# Altium schematic symbol library SparkFun-Retired.SCHLIB: 411 symbols (part 4 of 6)
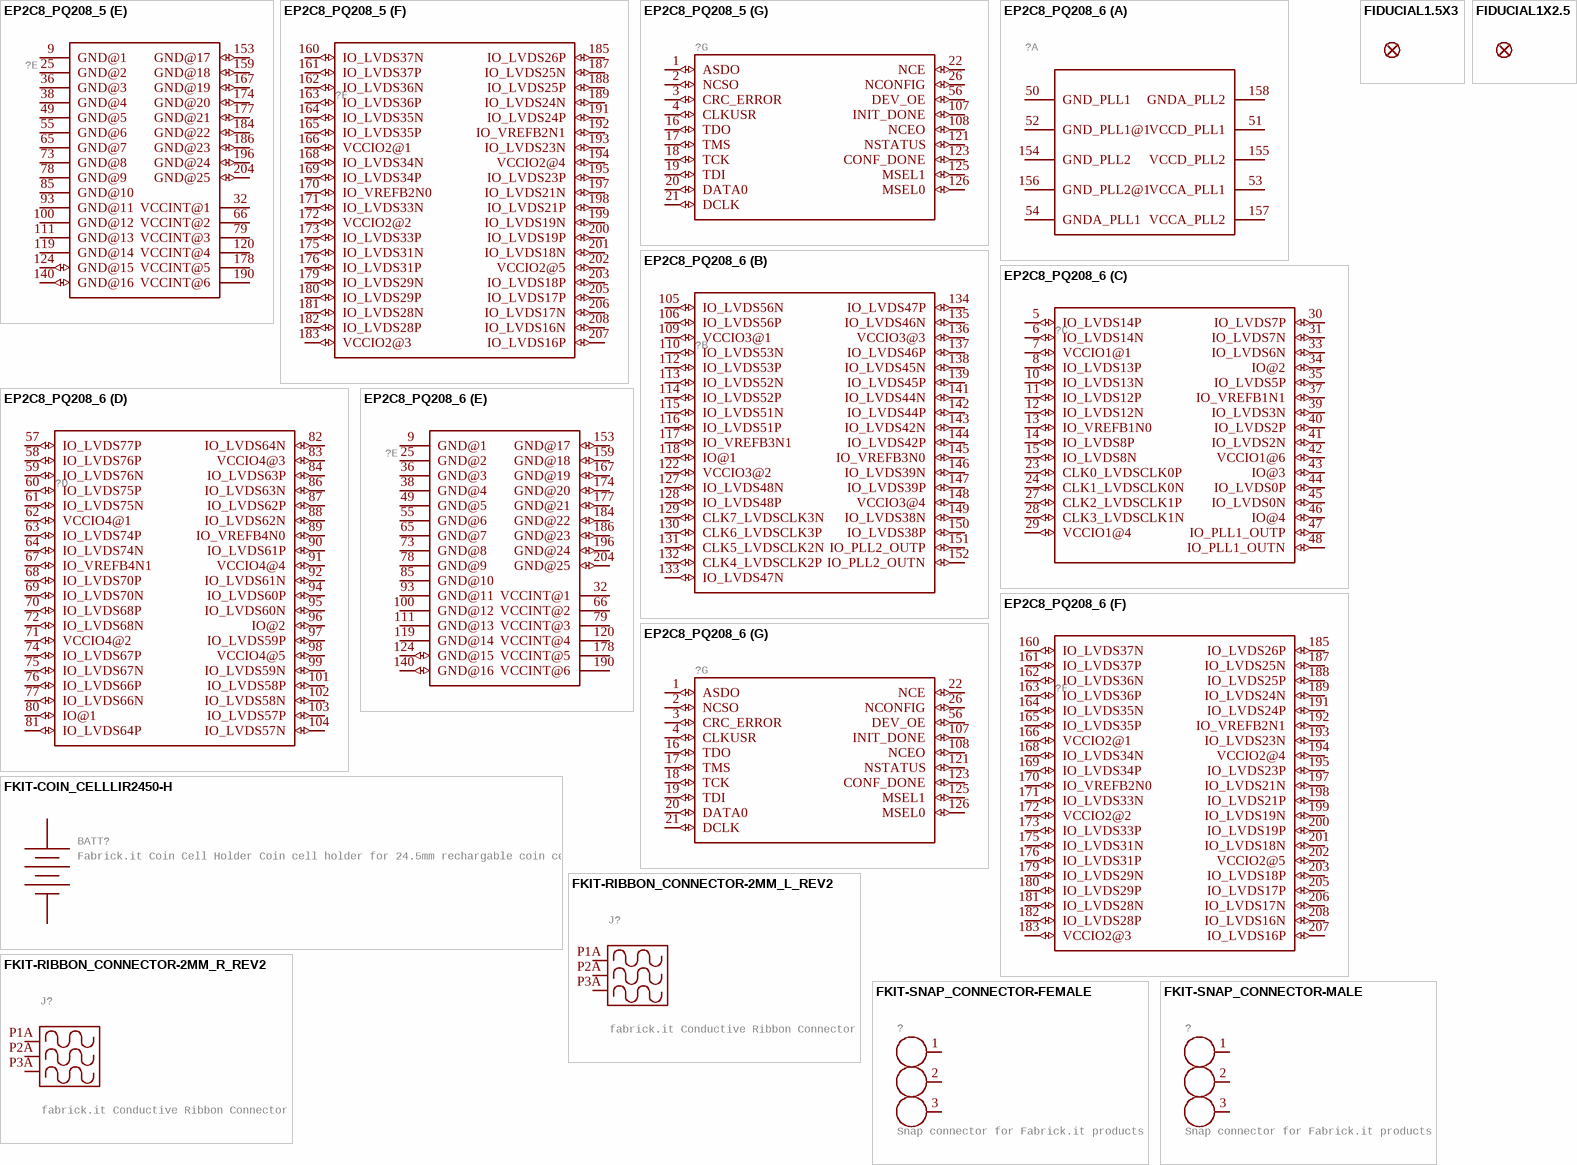
[diagram p35: symbols EP2C8_PQ208_5 to FKIT-SNAP_CONNECTOR-MALE]

## FKIT-COIN_CELLLIR2450-H
designator BATT?, comment Fabrick.it Coin Cell Holder Coin cell holder for 24.5mm rechargable coin cell
GateName_1: G$1; SymbolName_1: FKIT-BATTERY; DeviceName: LIR2450-H; DeviceSetName: FKIT-COIN_CELL; LibraryName: SparkFun-Retired; Package: FKIT-LIR2450-H
footprint FKIT-LIR2450-H
pins: NEG (io), POS (io)

## FKIT-LOGO-MEDIUM
designator LOGO?, comment Fabrick.it Logos  (value not drawn)
GateName_1: G$1; SymbolName_1: FKIT-LOGO; DeviceName: -MEDIUM; LibraryName: SparkFun-Retired; DeviceSetName: FKIT-LOGO; Package: FKIT-LOGO_MEDIUM
footprint FKIT-LOGO_MEDIUM

## FKIT-LOGO-SMALL
designator LOGO?, comment Fabrick.it Logos  (value not drawn)
GateName_1: G$1; SymbolName_1: FKIT-LOGO; DeviceName: -SMALL; LibraryName: SparkFun-Retired; DeviceSetName: FKIT-LOGO; Package: FKIT-LOGO_SMALL
footprint FKIT-LOGO_SMALL

## FKIT-LOGO-VERY_SMALL
designator LOGO?, comment Fabrick.it Logos  (value not drawn)
GateName_1: G$1; SymbolName_1: FKIT-LOGO; DeviceName: -VERY_SMALL; LibraryName: SparkFun-Retired; DeviceSetName: FKIT-LOGO; Package: FKIT-LOGO_VERY_SMALL
footprint FKIT-LOGO_VERY_SMALL

## FKIT-LOGO-VERY_SMALL_VECTOR
designator LOGO?, comment Fabrick.it Logos  (value not drawn)
GateName_1: G$1; SymbolName_1: FKIT-LOGO; DeviceName: -VERY_SMALL_VECTOR; LibraryName: SparkFun-Retired; DeviceSetName: FKIT-LOGO; Package: FKIT-LOGO_VERY_SMALL
footprint FKIT-LOGO_VERY_SMALL

## FKIT-LOGOTYPE-MEDIUM
designator LOGO?, comment Fabrick.it Logotype  (value not drawn)
GateName_1: G$1; SymbolName_1: FKIT-LOGOTYPE; DeviceName: -MEDIUM; LibraryName: SparkFun-Retired; DeviceSetName: FKIT-LOGOTYPE; Package: FKIT-LOGOTYPE_MEDIUM
footprint FKIT-LOGOTYPE_MEDIUM

## FKIT-LOGOTYPE-SMALL
designator LOGO?, comment Fabrick.it Logotype  (value not drawn)
GateName_1: G$1; SymbolName_1: FKIT-LOGOTYPE; DeviceName: -SMALL; LibraryName: SparkFun-Retired; DeviceSetName: FKIT-LOGOTYPE; Package: FKIT-LOGOTYPE_SMALL
footprint FKIT-LOGOTYPE_SMALL

## FKIT-LOGOTYPE-VERY_SMALL
designator LOGO?, comment Fabrick.it Logotype  (value not drawn)
GateName_1: G$1; SymbolName_1: FKIT-LOGOTYPE; DeviceName: -VERY_SMALL; LibraryName: SparkFun-Retired; DeviceSetName: FKIT-LOGOTYPE; Package: FKIT-LOGOTYPE_VERY_SMALL
footprint FKIT-LOGOTYPE_VERY_SMALL

## FKIT-RIBBON_CONNECTOR-2MM_L_REV2
designator J?, comment fabrick.it Conductive Ribbon Connector
GateName_1: G$1; SymbolName_1: FKIT-CONNECTOR_COND_03; DeviceName: -2MM_L_REV2; DeviceSetName: FKIT-RIBBON_CONNECTOR; LibraryName: SparkFun-Retired; Package: FKIT-RIBBON_CONNECTOR_03_2MM_L
footprint FKIT-RIBBON_CONNECTOR_03_2MM_L
pins: P1A P$1 (io), P2A P$2 (io), P3A P$3 (io)

## FKIT-RIBBON_CONNECTOR-2MM_R_REV2
designator J?, comment fabrick.it Conductive Ribbon Connector
GateName_1: G$1; SymbolName_1: FKIT-CONNECTOR_COND_03; DeviceName: -2MM_R_REV2; DeviceSetName: FKIT-RIBBON_CONNECTOR; LibraryName: SparkFun-Retired; Package: FKIT-RIBBON_CONNECTOR_03_2MM_R
footprint FKIT-RIBBON_CONNECTOR_03_2MM_R
pins: P1A P$1 (io), P2A P$2 (io), P3A P$3 (io)

## FKIT-SNAP_CONNECTOR-FEMALE
designator ?, comment Snap connector for Fabrick.it products
GateName_1: G$1; SymbolName_1: FKIT-SNAP_CONNECTOR; DeviceName: -FEMALE; LibraryName: SparkFun-Retired; DeviceSetName: FKIT-SNAP_CONNECTOR; Package: FKIT-SNAP_FEMALE
footprint FKIT-SNAP_FEMALE
pins: 1 (io), 2 (io), 3 (io)

## FKIT-SNAP_CONNECTOR-MALE
designator ?, comment Snap connector for Fabrick.it products
GateName_1: G$1; SymbolName_1: FKIT-SNAP_CONNECTOR; DeviceName: -MALE; LibraryName: SparkFun-Retired; DeviceSetName: FKIT-SNAP_CONNECTOR; Package: FKIT-SNAP_MALE
footprint FKIT-SNAP_MALE
pins: 1 (io), 2 (io), 3 (io)

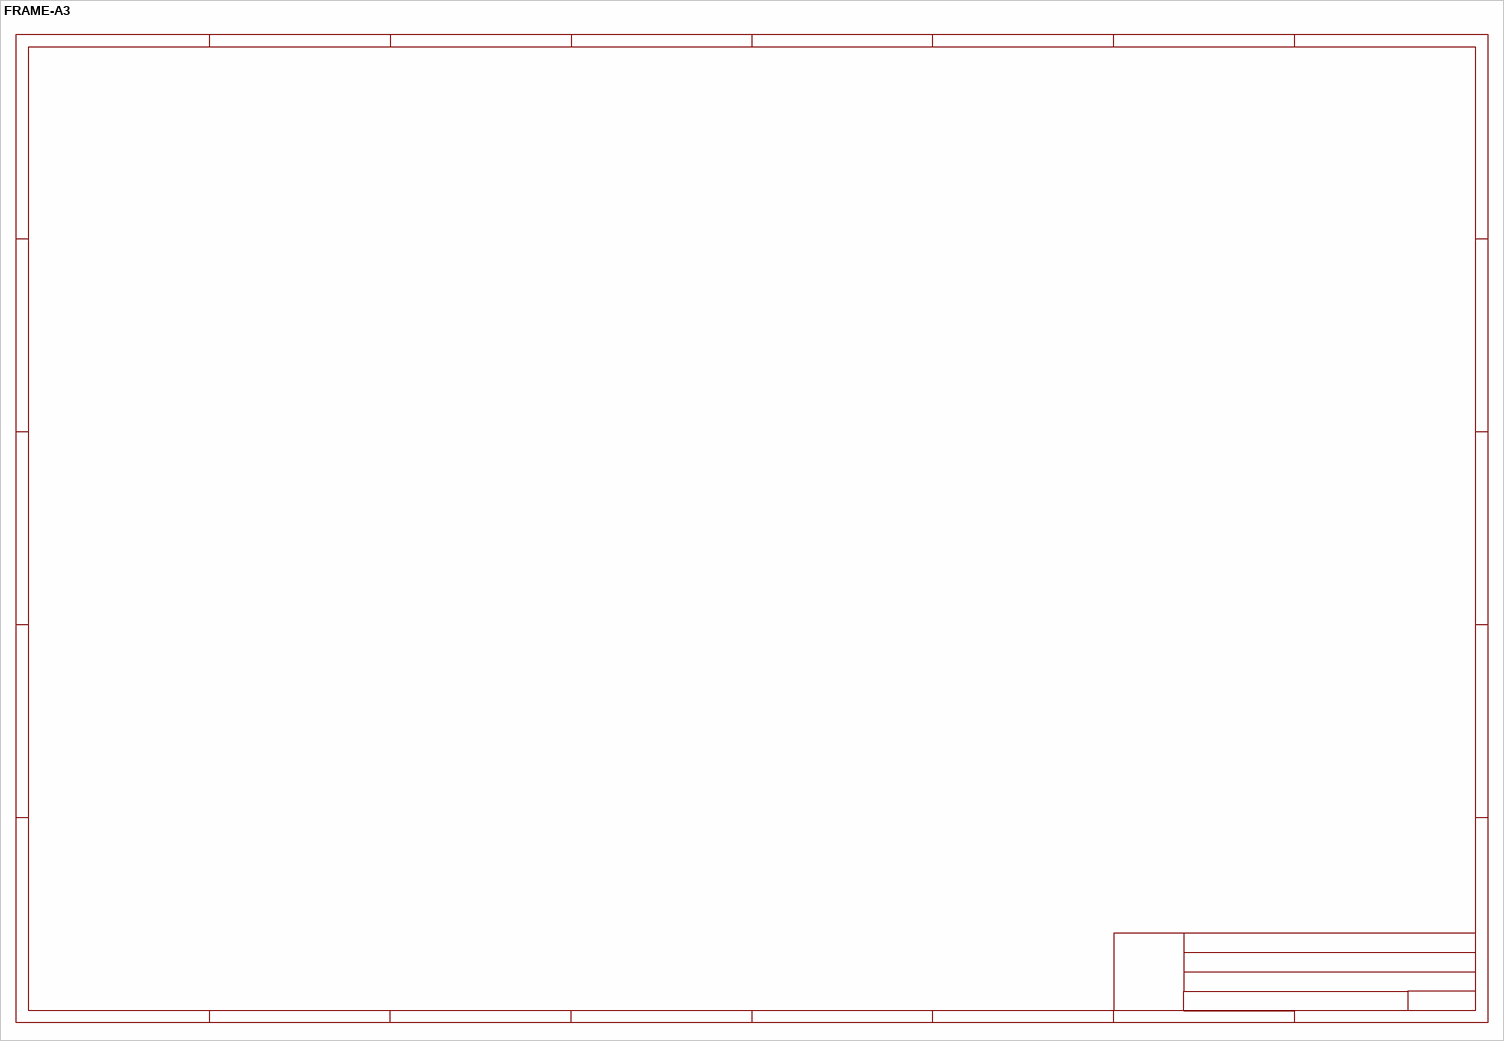
[diagram p15: symbol FRAME-A3]

## FRAME-A3
designator FRAME?, comment Schematic Frame   A3 Larger Frame-RETIRED Please use FRAME-LEDGER/FRAME-LETTER for schematics now.  (value not drawn)
GateName_1: G$1; SymbolName_1: A3L-LOC; DeviceSetName: FRAME-A3; LibraryName: SparkFun-Retired

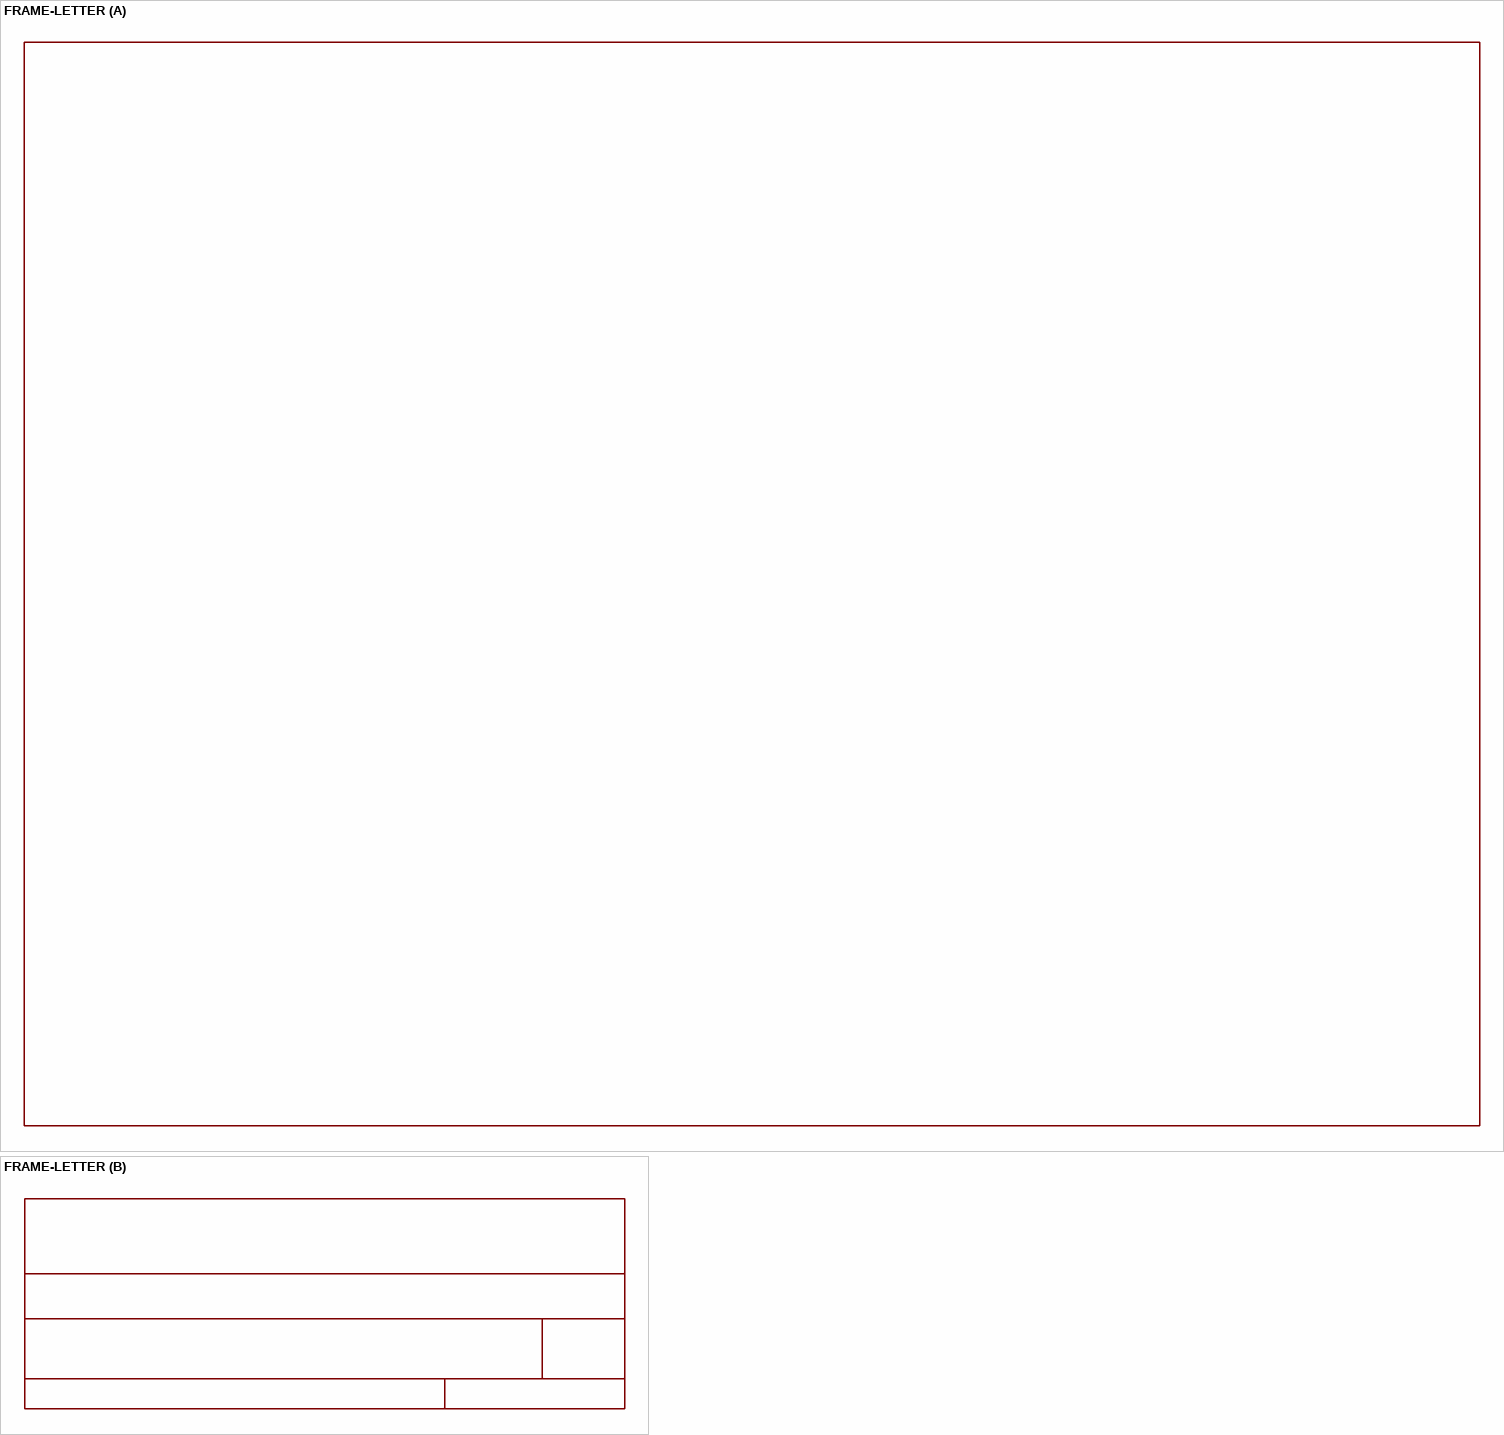
[diagram p16: symbol FRAME-LETTER]

## FRAME-LETTER
designator FRAME?, comment Schematic Frame   Standard 8.5x11 US Letter frame  (value not drawn)
GateName_1: G$1; SymbolName_1: LETTER_L; GateName_2: G$2; SymbolName_2: DOCFIELD; DeviceSetName: FRAME-LETTER; LibraryName: SparkFun-Retired; Package: CREATIVE_COMMONS
footprint CREATIVE_COMMONS

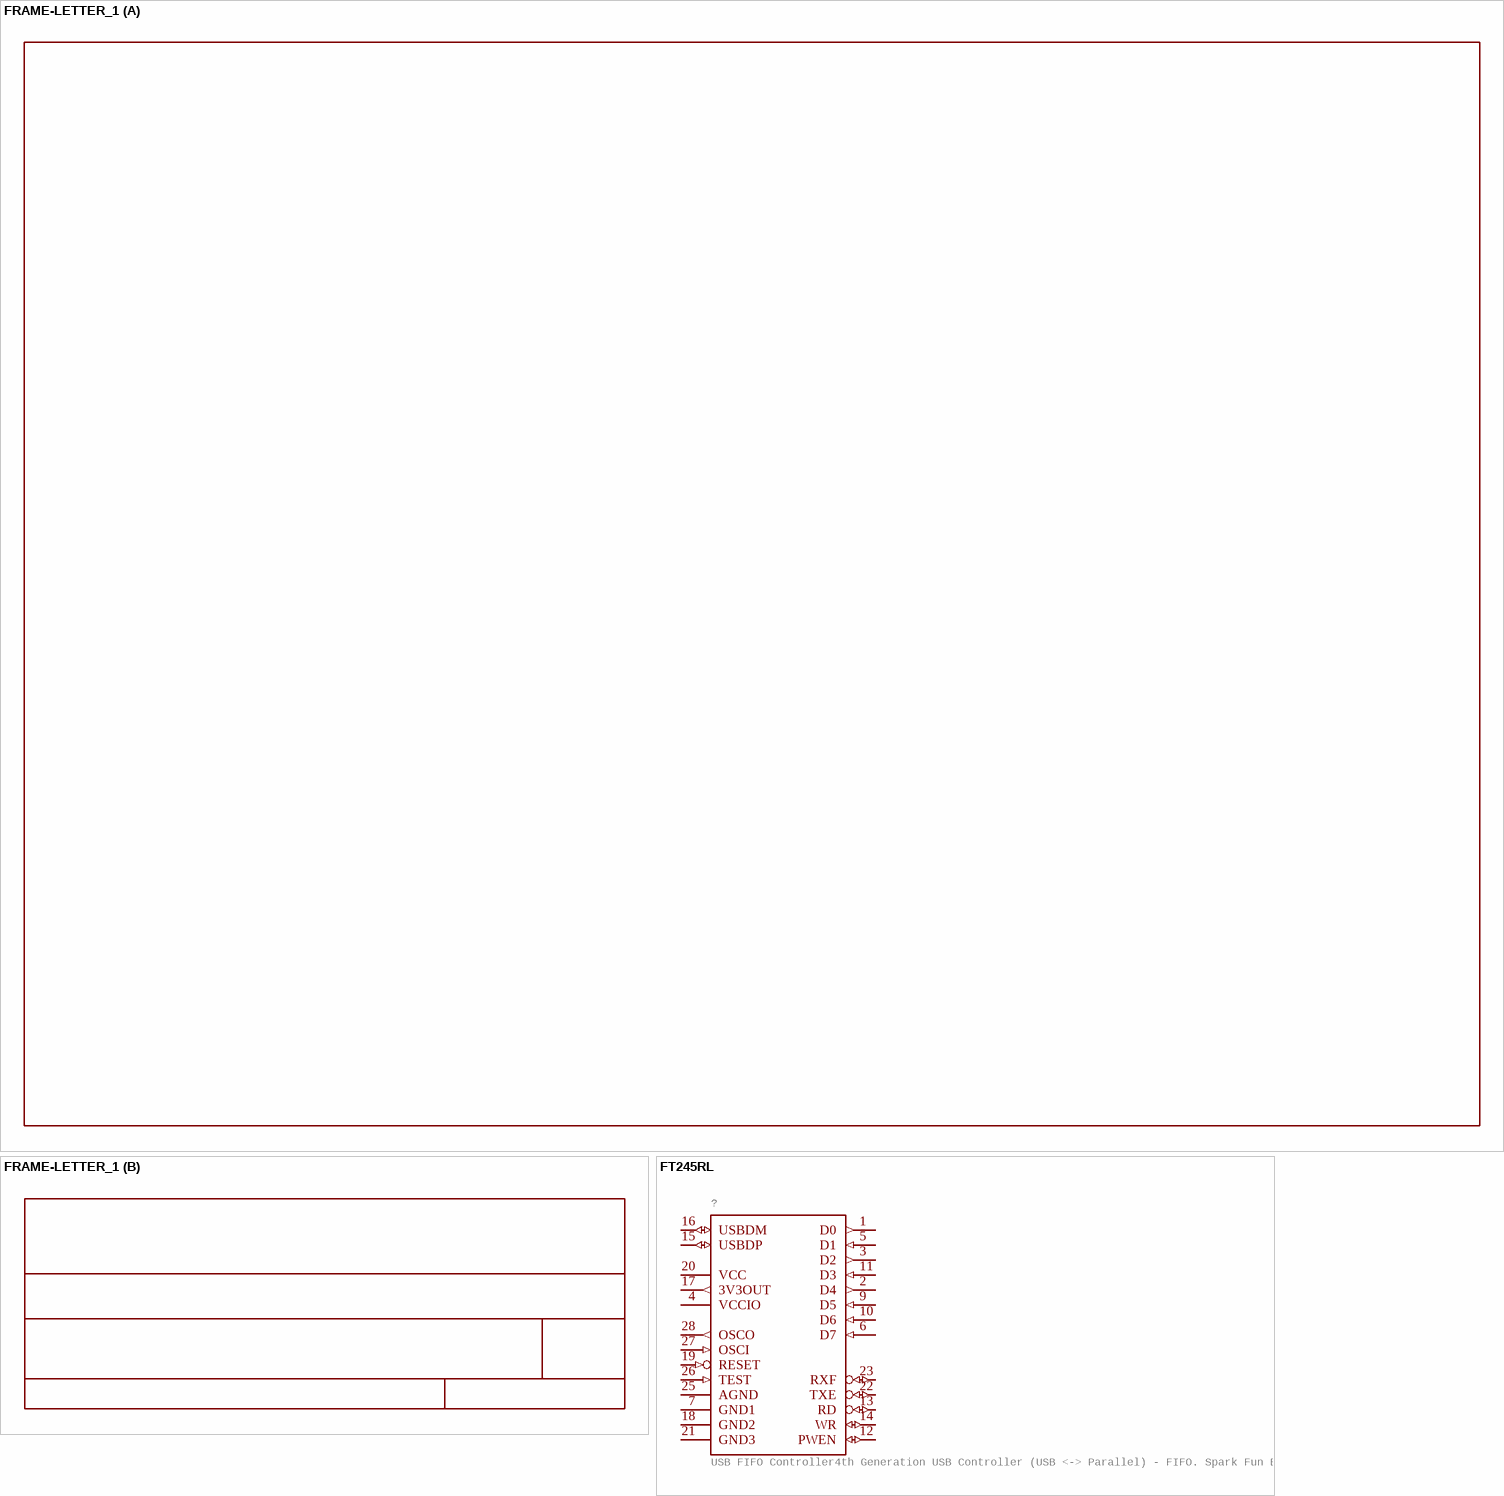
[diagram p17: symbols FRAME-LETTER_1 to FT245RL]

## FRAME-LETTER_1
designator FRAME?, comment Schematic Frame   Standard 8.5x11 US Letter frame  (value not drawn)
GateName_1: G$1; SymbolName_1: LETTER_L; GateName_2: G$2; SymbolName_2: DOCFIELD; DeviceSetName: FRAME-LETTER; LibraryName: SparkFun-Retired; Package: CREATIVE_COMMONS
footprint CREATIVE_COMMONS

## FT245RL
designator ?, comment USB FIFO Controller4th Generation USB Controller (USB <-> Parallel) - FIFO. Spark Fun Electronics SKU : COM-00787   TODO: Move this to retired
GateName_1: G$1; SymbolName_1: FT245R; DeviceSetName: FT245RL; LibraryName: SparkFun-Retired; Package: SSOP28DB; PROD_ID: COM-00787
footprint SSOP28DB
pins: 1 D0 (out), 2 D4 (out), 3 D2 (out), 4 VCCIO (power), 5 D1 (in), 6 D7 (in), 7 GND1 (power), 9 D5 (in), 10 D6 (in), 11 D3 (in), 12 PWEN (io), 13 RD (io), 14 WR (io), 15 USBDP (io), 16 USBDM (io), 17 3V3OUT (out), 18 GND2 (power), 19 RESET (in), 20 VCC (power), 21 GND3 (power), 22 TXE (io), 23 RXF (io), 25 AGND (power), 26 TEST (in), 27 OSCI (in), 28 OSCO (out)

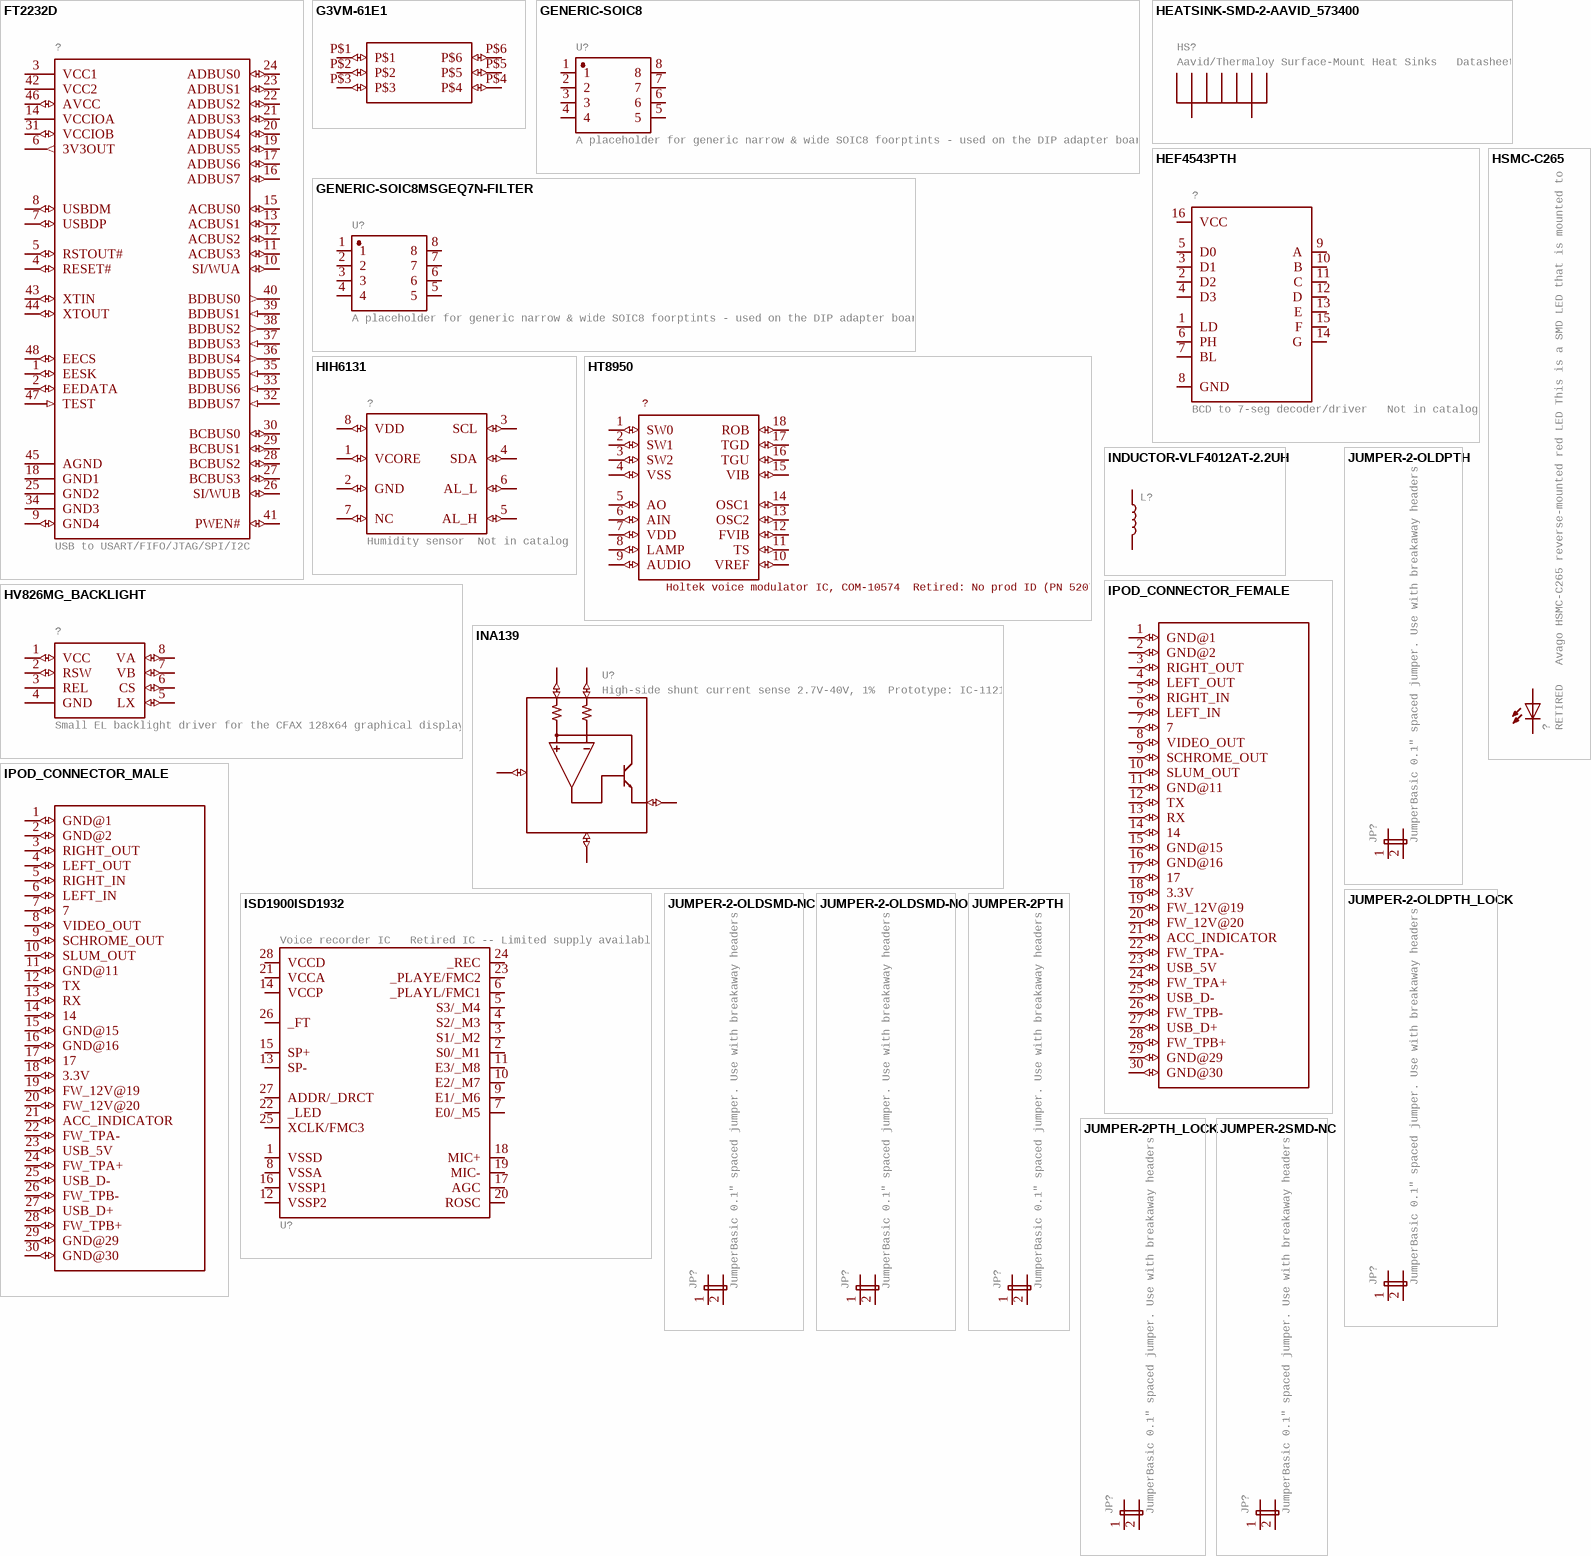
[diagram p18: symbols FT2232D to JUMPER-2SMD-NC]

## FT2232D
designator ?, comment USB to USART/FIFO/JTAG/SPI/I2C
GateName_1: G$1; SymbolName_1: FT2232D; LibraryName: SparkFun-Retired; DeviceSetName: FT2232D; Package: LQFP-48
footprint LQFP-48
pins: 1 EESK (io), 2 EEDATA (io), 3 VCC1 (power), 4 RESET# (io), 5 RSTOUT# (io), 6 3V3OUT (out), 7 USBDP (io), 8 USBDM (io), 9 GND4 (io), 10 SI/WUA (io), 11 ACBUS3 (io), 12 ACBUS2 (io), 13 ACBUS1 (io), 14 VCCIOA (power), 15 ACBUS0 (io), 16 ADBUS7 (io), 17 ADBUS6 (io), 18 GND1 (power), 19 ADBUS5 (io), 20 ADBUS4 (io), 21 ADBUS3 (io), 22 ADBUS2 (io), 23 ADBUS1 (io), 24 ADBUS0 (io), 25 GND2 (power), 26 SI/WUB (io), 27 BCBUS3 (io), 28 BCBUS2 (io), 29 BCBUS1 (io), 30 BCBUS0 (io), 31 VCCIOB (io), 32 BDBUS7 (in), 33 BDBUS6 (in), 34 GND3 (power), 35 BDBUS5 (in), 36 BDBUS4 (out), 37 BDBUS3 (in), 38 BDBUS2 (out), 39 BDBUS1 (in), 40 BDBUS0 (out), 41 PWEN# (io), 42 VCC2 (power), 43 XTIN (io), 44 XTOUT (io), 45 AGND (power), 46 AVCC (io), 47 TEST (in), 48 EECS (io)

## G3VM-61E1
designator ?, comment Omron NO solid state relay  (value not drawn)
GateName_1: G$1; SymbolName_1: G3VM-61E1; PROD_ID: TRANS-08720; LibraryName: SparkFun-Retired; DeviceSetName: G3VM-61E1; Package: G3VM-61E1
footprint G3VM-61E1
pins: P$1 (io), P$2 (io), P$3 (io), P$4 (io), P$5 (io), P$6 (io)

## GENERIC-SOIC8
designator U?, comment A placeholder for generic narrow & wide SOIC8 foorptints - used on the DIP adapter board.  Has strange reference to IC-10141, a Seven Band Graphic Equalizer Display Filter SOIC-8 VFP: IC-10141
GateName_1: G$1; SymbolName_1: GENERIC-8PIN; DeviceSetName: GENERIC-SOIC8; LibraryName: SparkFun-Retired; Package: SO08-UNIVERSAL
footprint SO08-UNIVERSAL
pins: 1 (io), 2 (io), 3 (io), 4 (io), 5 (io), 6 (io), 7 (io), 8 (io)

## GENERIC-SOIC8MSGEQ7N-FILTER
designator U?, comment A placeholder for generic narrow & wide SOIC8 foorptints - used on the DIP adapter board.  Has strange reference to IC-10141, a Seven Band Graphic Equalizer Display Filter SOIC-8 VFP: IC-10141
GateName_1: G$1; SymbolName_1: GENERIC-8PIN; DeviceName: MSGEQ7N-FILTER; DeviceSetName: GENERIC-SOIC8; LibraryName: SparkFun-Retired; Package: SO08; PROD_ID: IC-10141
footprint SO08
pins: 1 (io), 2 (io), 3 (io), 4 (io), 5 (io), 6 (io), 7 (io), 8 (io)

## HEATSINK-SMD-2-AAVID_573400
designator HS?, comment Aavid/Thermaloy Surface-Mount Heat Sinks   Datasheet
GateName_1: G$1; SymbolName_1: HEATSINK-SMD-2; DeviceName: -AAVID_573400; PROD_ID: COMP-12096; LibraryName: SparkFun-Retired; DeviceSetName: HEATSINK-SMD-2; Package: AAVID_573400
footprint AAVID_573400
pins: P$1 (io), P$2 (io)

## HEF4543PTH
designator ?, comment BCD to 7-seg decoder/driver   Not in catalog
GateName_1: G$1; SymbolName_1: HEF4543; DeviceName: PTH; LibraryName: SparkFun-Retired; DeviceSetName: HEF4543; Package: DIP16
footprint DIP16
pins: 1 LD (io), 2 D2 (io), 3 D1 (io), 4 D3 (io), 5 D0 (io), 6 PH (io), 7 BL (io), 8 GND (io), 9 A (io), 10 B (io), 11 C (io), 12 D (io), 13 E (io), 14 G (io), 15 F (io), 16 VCC (io)

## HIH6131
designator ?, comment Humidity sensor  Not in catalog
GateName_1: G$1; SymbolName_1: HIH6131; LibraryName: SparkFun-Retired; DeviceSetName: HIH6131; Package: SOIC8
footprint SOIC8
pins: 1 VCORE (io), 2 GND (io), 3 SCL (io), 4 SDA (io), 5 AL_H (io), 6 AL_L (io), 7 NC (io), 8 VDD (io)

## HSMC-C265
designator ?, comment RETIRED   Avago HSMC-C265 reverse-mounted red LED This is a SMD LED that is mounted to one side of a PCB and shines through a hole to the other side of the PCB. Useful for making boards with no components on one side for mounting and having LED indicator lights shine through the board, panel, etc.
GateName_1: G$1; SymbolName_1: LED; LibraryName: SparkFun-Retired; DeviceSetName: HSMC-C265; Package: HSMC-C265
footprint HSMC-C265
pins: A, C

## HT8950
designator ?, comment Holtek voice modulator IC, COM-10574  Retired: No prod ID (PN 5207)
GateName_1: G$1; SymbolName_1: HT8950; LibraryName: SparkFun-Retired; DeviceSetName: HT8950; Package: DIL18
footprint DIL18
pins: 1 SW0 (io), 2 SW1 (io), 3 SW2 (io), 4 VSS (io), 5 AO (io), 6 AIN (io), 7 VDD (io), 8 LAMP (io), 9 AUDIO (io), 10 VREF (io), 11 TS (io), 12 FVIB (io), 13 OSC2 (io), 14 OSC1 (io), 15 VIB (io), 16 TGU (io), 17 TGD (io), 18 ROB (io)

## HV826MG_BACKLIGHT
designator ?, comment Small EL backlight driver for the CFAX 128x64 graphical display.
GateName_1: G$1; SymbolName_1: HV826MG_BACKLIGHT; LibraryName: SparkFun-Retired; DeviceSetName: HV826MG_BACKLIGHT; Package: MSOP8
footprint MSOP8
pins: 1 VCC (io), 2 RSW (io), 3 REL (power), 4 GND (power), 5 LX (io), 6 CS (io), 7 VB (io), 8 VA (io)

## INA139
designator U?, comment High-side shunt current sense 2.7V-40V, 1%  Prototype: IC-11211
GateName_1: G$1; SymbolName_1: INA139; LibraryName: SparkFun-Retired; DeviceSetName: INA139; Package: SOT23-5
footprint SOT23-5
pins: 1 OUT (io), 2 GND (io), 3 VIN+ (io), 4 VIN- (io), 5 V+ (io)

## INDUCTOR-VLF4012AT-2.2UH
designator L?
GateName_1: G$1; SymbolName_1: INDUCTOR; DeviceName: -VLF4012AT-2.2UH; PROD_ID: NDUC-09513; LibraryName: SparkFun-Retired; DeviceSetName: INDUCTOR; Package: INDUCTOR_2.2UH
footprint INDUCTOR_2.2UH
pins: P$1 1, P$2 2

## IPOD_CONNECTOR_FEMALE
designator ?, comment iPod Female ConnectorThis is the connector found inside current iPods. Use this connector to attach to iPod accessories like Nike+iPods, etc. Schematic and footprint are not yet production proven. Spark Fun Electronics SKU : DEV-08035  (value not drawn)
GateName_1: G$1; SymbolName_1: IPOD_CONNECTOR_FEMALE; LibraryName: SparkFun-Retired; DeviceSetName: IPOD_CONNECTOR_FEMALE; Package: IPOD_FEMALE_CONNECTOR
footprint IPOD_FEMALE_CONNECTOR
pins: 1 GND@1 (io), 2 GND@2 (io), 3 RIGHT_OUT (io), 4 LEFT_OUT (io), 5 RIGHT_IN (io), 6 LEFT_IN (io), 7 (io), 8 VIDEO_OUT (io), 9 SCHROME_OUT (io), 10 SLUM_OUT (io), 11 GND@11 (io), 12 TX (io), 13 RX (io), 14 (io), 15 GND@15 (io), 16 GND@16 (io), 17 (io), 18 3.3V (io), 19 FW_12V@19 (io), 20 FW_12V@20 (io), 21 ACC_INDICATOR (io), 22 FW_TPA- (io), 23 USB_5V (io), 24 FW_TPA+ (io), 25 USB_D- (io), 26 FW_TPB- (io), 27 USB_D+ (io), 28 FW_TPB+ (io), 29 GND@29 (io), 30 GND@30 (io)

## IPOD_CONNECTOR_MALE
designator ?, comment iPod Male ConnectorThis is the connector that will insert into an iPods. Use this connector to gain access to the various iPod pins. Schematic and footprint are not yet production proven. The PCB thickness must be more thin than the standard 0.062" FR4. Spark Fun Electronics SKU : DEV-00633  (value not drawn)
GateName_1: G$1; SymbolName_1: IPOD_CONNECTOR_FEMALE; DeviceSetName: IPOD_CONNECTOR_MALE; LibraryName: SparkFun-Retired; Package: IPOD_MALE_CONNECTOR
footprint IPOD_MALE_CONNECTOR
pins: 1 GND@1 (io), 2 GND@2 (io), 3 RIGHT_OUT (io), 4 LEFT_OUT (io), 5 RIGHT_IN (io), 6 LEFT_IN (io), 7 (io), 8 VIDEO_OUT (io), 9 SCHROME_OUT (io), 10 SLUM_OUT (io), 11 GND@11 (io), 12 TX (io), 13 RX (io), 14 (io), 15 GND@15 (io), 16 GND@16 (io), 17 (io), 18 3.3V (io), 19 FW_12V@19 (io), 20 FW_12V@20 (io), 21 ACC_INDICATOR (io), 22 FW_TPA- (io), 23 USB_5V (io), 24 FW_TPA+ (io), 25 USB_D- (io), 26 FW_TPB- (io), 27 USB_D+ (io), 28 FW_TPB+ (io), 29 GND@29 (io), 30 GND@30 (io)

## ISD1900ISD1932
designator U?, comment Voice recorder IC   Retired IC -- Limited supply available
GateName_1: G$1; SymbolName_1: ISD1932; DeviceSetName: ISD1900; DeviceName: ISD1932; LibraryName: SparkFun-Retired; Package: SO-28W
footprint SO-28W
pins: 1 VSSD (io), 2 S0/_M1 (io), 3 S1/_M2 (io), 4 S2/_M3 (io), 5 S3/_M4 (io), 6 _PLAYL/FMC1 (io), 7 E0/_M5 (io), 8 VSSA (io), 9 E1/_M6 (io), 10 E2/_M7 (io), 11 E3/_M8 (io), 12 VSSP2 (io), 13 SP- (io), 14 VCCP (io), 15 SP+ (io), 16 VSSP1 (io), 17 AGC (io), 18 MIC+ (io), 19 MIC- (io), 20 ROSC (io), 21 VCCA (io), 22 _LED (io), 23 _PLAYE/FMC2 (io), 24 _REC (io), 25 XCLK/FMC3 (io), 26 _FT (io), 27 ADDR/_DRCT (io), 28 VCCD (io)

## JUMPER-2-OLDPTH
designator JP?, comment JumperBasic 0.1" spaced jumper. Use with breakaway headers.
GateName_1: A; SymbolName_1: JUMPER-2; DeviceName: PTH; DeviceSetName: JUMPER-2-OLD; LibraryName: SparkFun-Retired; Package: 1X02
footprint 1X02
pins: 1, 2

## JUMPER-2-OLDPTH_LOCK
designator JP?, comment JumperBasic 0.1" spaced jumper. Use with breakaway headers.
GateName_1: A; SymbolName_1: JUMPER-2; DeviceName: PTH_LOCK; DeviceSetName: JUMPER-2-OLD; LibraryName: SparkFun-Retired; Package: 1X02_LOCK
footprint 1X02_LOCK
pins: 1, 2

## JUMPER-2-OLDSMD-NC
designator JP?, comment JumperBasic 0.1" spaced jumper. Use with breakaway headers.
GateName_1: A; SymbolName_1: JUMPER-2; DeviceName: SMD-NC; DeviceSetName: JUMPER-2-OLD; LibraryName: SparkFun-Retired; Package: SJ_2S
footprint SJ_2S
pins: 1, 2

## JUMPER-2-OLDSMD-NO
designator JP?, comment JumperBasic 0.1" spaced jumper. Use with breakaway headers.
GateName_1: A; SymbolName_1: JUMPER-2; DeviceName: SMD-NO; DeviceSetName: JUMPER-2-OLD; LibraryName: SparkFun-Retired; Package: SJ_2S-NO
footprint SJ_2S-NO
pins: 1, 2

## JUMPER-2PTH
designator JP?, comment JumperBasic 0.1" spaced jumper. Use with breakaway headers.
GateName_1: A; SymbolName_1: JUMPER-2; DeviceName: PTH; LibraryName: SparkFun-Retired; DeviceSetName: JUMPER-2; Package: 1X02
footprint 1X02
pins: 1, 2

## JUMPER-2PTH_LOCK
designator JP?, comment JumperBasic 0.1" spaced jumper. Use with breakaway headers.
GateName_1: A; SymbolName_1: JUMPER-2; DeviceName: PTH_LOCK; LibraryName: SparkFun-Retired; DeviceSetName: JUMPER-2; Package: 1X02_LOCK
footprint 1X02_LOCK
pins: 1, 2

## JUMPER-2SMD-NC
designator JP?, comment JumperBasic 0.1" spaced jumper. Use with breakaway headers.
GateName_1: A; SymbolName_1: JUMPER-2; DeviceName: SMD-NC; LibraryName: SparkFun-Retired; DeviceSetName: JUMPER-2; Package: SJ_2S
footprint SJ_2S
pins: 1, 2

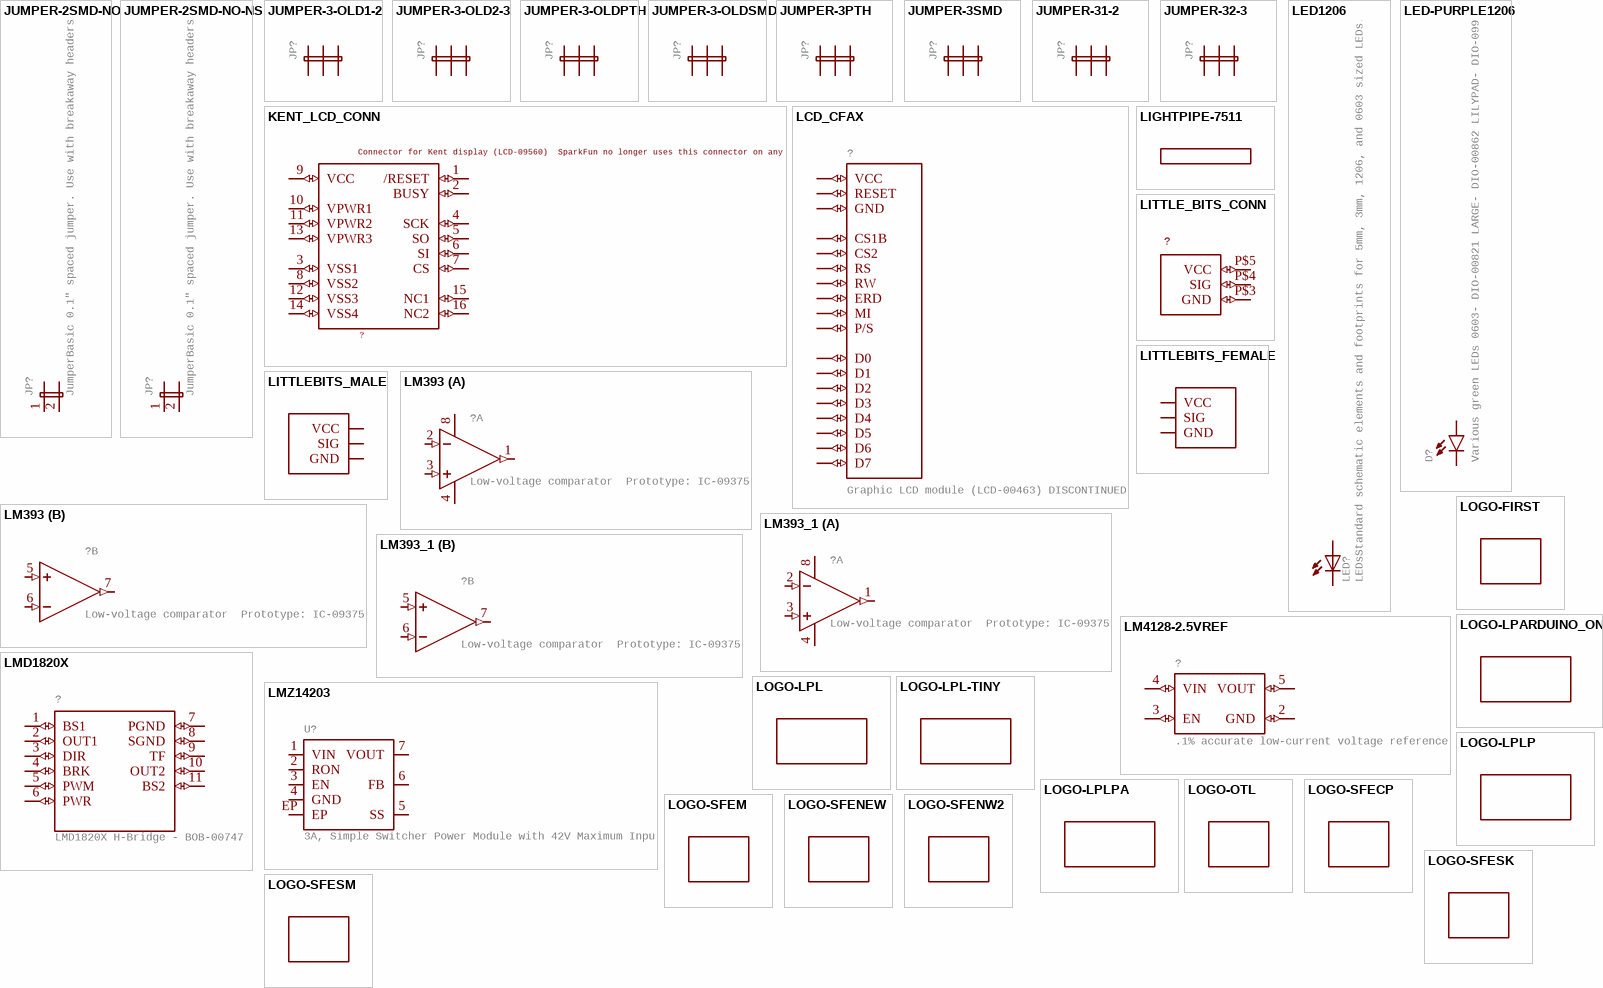
[diagram p19: symbols JUMPER-2SMD-NO to LOGO-SFESM]

## JUMPER-2SMD-NO
designator JP?, comment JumperBasic 0.1" spaced jumper. Use with breakaway headers.
GateName_1: A; SymbolName_1: JUMPER-2; DeviceName: SMD-NO; LibraryName: SparkFun-Retired; DeviceSetName: JUMPER-2; Package: SJ_2S-NO
footprint SJ_2S-NO
pins: 1, 2

## JUMPER-2SMD-NO-NS
designator JP?, comment JumperBasic 0.1" spaced jumper. Use with breakaway headers.
GateName_1: A; SymbolName_1: JUMPER-2; DeviceName: SMD-NO-NS; LibraryName: SparkFun-Retired; DeviceSetName: JUMPER-2; Package: SJ_2S-NO-NS
footprint SJ_2S-NO-NS
pins: 1, 2

## JUMPER-3-OLD1-2
designator JP?
GateName_1: G$1; SymbolName_1: JUMPER-3; DeviceName: 1-2; DeviceSetName: JUMPER-3-OLD; LibraryName: SparkFun-Retired; Package: SJ_3_PASTE1&2
footprint SJ_3_PASTE1&2
pins: 1, 2, 3

## JUMPER-3-OLD2-3
designator JP?
GateName_1: G$1; SymbolName_1: JUMPER-3; DeviceName: 2-3; DeviceSetName: JUMPER-3-OLD; LibraryName: SparkFun-Retired; Package: SJ_3_PASTE2&3
footprint SJ_3_PASTE2&3
pins: 1, 2, 3

## JUMPER-3-OLDPTH
designator JP?
GateName_1: G$1; SymbolName_1: JUMPER-3; DeviceName: PTH; DeviceSetName: JUMPER-3-OLD; LibraryName: SparkFun-Retired; Package: 1X03
footprint 1X03
pins: 1, 2, 3

## JUMPER-3-OLDSMD
designator JP?
GateName_1: G$1; SymbolName_1: JUMPER-3; DeviceName: SMD; DeviceSetName: JUMPER-3-OLD; LibraryName: SparkFun-Retired; Package: SJ_3
footprint SJ_3
pins: 1, 2, 3

## JUMPER-3PTH
designator JP?
GateName_1: G$1; SymbolName_1: JUMPER-3; DeviceName: PTH; LibraryName: SparkFun-Retired; DeviceSetName: JUMPER-3; Package: 1X03
footprint 1X03
pins: 1, 2, 3

## JUMPER-3SMD
designator JP?
GateName_1: G$1; SymbolName_1: JUMPER-3; DeviceName: SMD; LibraryName: SparkFun-Retired; DeviceSetName: JUMPER-3; Package: SJ_3
footprint SJ_3
pins: 1, 2, 3

## JUMPER-31-2
designator JP?
GateName_1: G$1; SymbolName_1: JUMPER-3; DeviceName: 1-2; LibraryName: SparkFun-Retired; DeviceSetName: JUMPER-3; Package: SJ_3_PASTE1&2
footprint SJ_3_PASTE1&2
pins: 1, 2, 3

## JUMPER-32-3
designator JP?
GateName_1: G$1; SymbolName_1: JUMPER-3; DeviceName: 2-3; LibraryName: SparkFun-Retired; DeviceSetName: JUMPER-3; Package: SJ_3_PASTE2&3
footprint SJ_3_PASTE2&3
pins: 1, 2, 3

## KENT_LCD_CONN
designator ?, comment Connector for Kent display (LCD-09560)  SparkFun no longer uses this connector on any active designs, however 4Ucon still makes this connector as of 7/19/2016.  http://www.4uconnector.com/online/object/4udrawing/07612.pdf
GateName_1: G$1; SymbolName_1: KENT_LCD_CONN; LibraryName: SparkFun-Retired; DeviceSetName: KENT_LCD_CONN; Package: FFC_16
footprint FFC_16
pins: 1 /RESET (io), 2 BUSY (io), 3 VSS1 (io), 4 SCK (io), 5 SO (io), 6 SI (io), 7 CS (io), 8 VSS2 (io), 9 VCC (io), 10 VPWR1 (io), 11 VPWR2 (io), 12 VSS3 (io), 13 VPWR3 (io), 14 VSS4 (io), 15 NC1 (io), 16 NC2 (io)

## LCD_CFAX
designator ?, comment Graphic LCD module (LCD-00463) DISCONTINUED
SymbolName_1: LCD_CFAX; GateName_1: LCD; LibraryName: SparkFun-Retired; DeviceSetName: LCD_CFAX; Package: LCD_CFAX
footprint LCD_CFAX
pins: P$1 VCC (io), P$2 GND (io), P$3 CS1B (io), P$4 CS2 (io), P$5 RESET (io), P$6 RS (io), P$7 RW (io), P$8 ERD (io), P$9 D0 (io), P$10 D1 (io), P$11 D2 (io), P$12 D3 (io), P$13 D4 (io), P$14 D5 (io), P$15 D6 (io), P$16 D7 (io), P$17 MI (io), P$18 P/S (io)

## LED1206
designator LED?, comment LEDsStandard schematic elements and footprints for 5mm, 3mm, 1206, and 0603 sized LEDs. 5mm - Spark Fun Electronics SKU : Comp-SBL
GateName_1: G$1; SymbolName_1: LED-1; DeviceName: 1206; DeviceSetName: LED; LibraryName: SparkFun-Retired; Package: LED-1206
footprint LED-1206
pins: A, C

## LED-PURPLE1206
designator D?, comment Various green LEDs 0603- DIO-00821 LARGE- DIO-00862 LILYPAD- DIO-09910
GateName_1: G$1; SymbolName_1: LED-2; DeviceName: 1206; DeviceSetName: LED-PURPLE; PROD_ID: DIO-11140; LibraryName: SparkFun-Retired; Package: LED-1206
footprint LED-1206
pins: A, C

## LIGHTPIPE-7511
designator ?
GateName_1: G$1; SymbolName_1: LIGHTPIPE-7511; LibraryName: SparkFun-Retired; DeviceSetName: LIGHTPIPE-7511; Package: LIGHTPIPE-7511
footprint LIGHTPIPE-7511

## LITTLE_BITS_CONN
designator ?, comment Connector used in LittleBits  (value not drawn)
GateName_1: G$1; DeviceSetName: LITTLE_BITS_CONN; SymbolName_1: LITTLEBITS; LibraryName: SparkFun-Retired; Package: LITTLEBITS
footprint LITTLEBITS
pins: P$3 GND (io), P$4 SIG (io), P$5 VCC (io)

## LITTLEBITS_FEMALE
designator J?, comment Female end for LittleBits boards  (value not drawn)
GateName_1: G$1; SymbolName_1: LITTLEBITS_FEMALE; LibraryName: SparkFun-Retired; DeviceSetName: LITTLEBITS_FEMALE; Package: LITTLE_BITS_FEMALE
footprint LITTLE_BITS_FEMALE
pins: SIG (io), V+ VCC (io), V- GND (io)

## LITTLEBITS_MALE
designator ?, comment Male end for LittleBits boards  (value not drawn)
GateName_1: G$1; SymbolName_1: LITTLEBITS_MALE; LibraryName: SparkFun-Retired; DeviceSetName: LITTLEBITS_MALE; Package: LITTLE_BITS_MALE
footprint LITTLE_BITS_MALE
pins: SIG (io), V+ VCC (io), V- GND (io)

## LM393
designator ?, comment Low-voltage comparator  Prototype: IC-09375
GateName_1: G1; SymbolName_1: OP-AMP+-; GateName_2: G2; SymbolName_2: OP-AMP; DeviceSetName: LM393; LibraryName: SparkFun-Retired; Package: SO08
footprint SO08
part A pins: 1 OUT (out), 2 -IN (in), 3 +IN (in), 4 V- (power), 8 V+ (power)
part B pins: 5 +IN (in), 6 -IN (in), 7 OUT (out)

## LM393_1
designator ?, comment Low-voltage comparator  Prototype: IC-09375
GateName_1: G1; SymbolName_1: OP-AMP+-; GateName_2: G2; SymbolName_2: OP-AMP; DeviceSetName: LM393; LibraryName: SparkFun-Retired; Package: SO08
footprint SO08
part A pins: 1 OUT (out), 2 -IN (in), 3 +IN (in), 4 V- (power), 8 V+ (power)
part B pins: 5 +IN (in), 6 -IN (in), 7 OUT (out)

## LM4128-2.5VREF
designator ?, comment .1% accurate low-current voltage reference
GateName_1: G$1; SymbolName_1: LM4128-2.5VREF; LibraryName: SparkFun-Retired; DeviceSetName: LM4128-2.5VREF; Package: SOT23-5
footprint SOT23-5
pins: 2 GND (io), 3 EN (io), 4 VIN (io), 5 VOUT (io)

## LMD1820X
designator ?, comment LMD1820X H-Bridge - BOB-00747
GateName_1: G$1; SymbolName_1: LMD1820X; LibraryName: SparkFun-Retired; DeviceSetName: LMD1820X; Package: TO-220-11LEAD
footprint TO-220-11LEAD
pins: 1 BS1 (io), 2 OUT1 (io), 3 DIR (io), 4 BRK (io), 5 PWM (io), 6 PWR (io), 7 PGND (io), 8 SGND (io), 9 TF (io), 10 OUT2 (io), 11 BS2 (io)

## LMZ14203
designator U?, comment 3A, Simple Switcher Power Module with 42V Maximum Input
GateName_1: G$1; SymbolName_1: LMZ14203; LibraryName: SparkFun-Retired; DeviceSetName: LMZ14203; Package: TO-PMOD-7
footprint TO-PMOD-7
pins: 1 VIN (io), 2 RON (io), 3 EN (io), 4 GND (io), 5 SS (io), 6 FB (io), 7 VOUT (io), EP (io)

## LOGO-FIRST
designator LOGO?
GateName_1: G$1; SymbolName_1: FIRST; DeviceSetName: LOGO-FIRST; LibraryName: SparkFun-Retired; Package: FRIST_LOGO
footprint FRIST_LOGO

## LOGO-LPARDUINO_ONLY
designator ?
GateName_1: G$1; SymbolName_1: LOGO-LP; DeviceName: ARDUINO_ONLY; LibraryName: SparkFun-Retired; DeviceSetName: LOGO-LP; Package: LOGO-A
footprint LOGO-A

## LOGO-LPL
designator ?
GateName_1: G$1; SymbolName_1: LOGO-LP; DeviceName: L; LibraryName: SparkFun-Retired; DeviceSetName: LOGO-LP; Package: LOGO-L
footprint LOGO-L

## LOGO-LPL-TINY
designator ?
GateName_1: G$1; SymbolName_1: LOGO-LP; DeviceName: L-TINY; LibraryName: SparkFun-Retired; DeviceSetName: LOGO-LP; Package: LOGO-L-TINY
footprint LOGO-L-TINY

## LOGO-LPLP
designator ?
GateName_1: G$1; SymbolName_1: LOGO-LP; DeviceName: LP; LibraryName: SparkFun-Retired; DeviceSetName: LOGO-LP; Package: LOGO-LILYPAD
footprint LOGO-LILYPAD

## LOGO-LPLPA
designator ?
GateName_1: G$1; SymbolName_1: LOGO-LP; DeviceName: LPA; LibraryName: SparkFun-Retired; DeviceSetName: LOGO-LP; Package: LOGO-LPA
footprint LOGO-LPA

## LOGO-OTL
designator LOGO?
GateName_1: G$1; SymbolName_1: OVERTONE_LOGO; DeviceSetName: LOGO-OTL; LibraryName: SparkFun-Retired; Package: OVERTONE_LOGO
footprint OVERTONE_LOGO

## LOGO-SFECP
designator LOGO?, comment Spark Fun Electronics PCB LogoThis is the standard Spark Fun Electronics PCB logo.  (value not drawn)
GateName_1: G$1; SymbolName_1: LOGO1; DeviceName: CP; DeviceSetName: LOGO-SFE; LibraryName: SparkFun-Retired; Package: SFE-LOGO-FLAME-COPPER
footprint SFE-LOGO-FLAME-COPPER

## LOGO-SFEM
designator LOGO?, comment Spark Fun Electronics PCB LogoThis is the standard Spark Fun Electronics PCB logo.  (value not drawn)
GateName_1: G$1; SymbolName_1: LOGO1; DeviceName: M; DeviceSetName: LOGO-SFE; LibraryName: SparkFun-Retired; Package: SFE-LOGO
footprint SFE-LOGO

## LOGO-SFENEW
designator LOGO?, comment Spark Fun Electronics PCB LogoThis is the standard Spark Fun Electronics PCB logo.  (value not drawn)
GateName_1: G$1; SymbolName_1: LOGO1; DeviceName: NEW; DeviceSetName: LOGO-SFE; LibraryName: SparkFun-Retired; Package: SFE-NEW-WEBLOGO
footprint SFE-NEW-WEBLOGO

## LOGO-SFENW2
designator LOGO?, comment Spark Fun Electronics PCB LogoThis is the standard Spark Fun Electronics PCB logo.  (value not drawn)
GateName_1: G$1; SymbolName_1: LOGO1; DeviceName: NW2; DeviceSetName: LOGO-SFE; LibraryName: SparkFun-Retired; Package: SFE-NEW-WEB
footprint SFE-NEW-WEB

## LOGO-SFESK
designator LOGO?, comment Spark Fun Electronics PCB LogoThis is the standard Spark Fun Electronics PCB logo.  (value not drawn)
GateName_1: G$1; SymbolName_1: LOGO1; DeviceName: SK; DeviceSetName: LOGO-SFE; LibraryName: SparkFun-Retired; Package: SFE-LOGO-FLAME
footprint SFE-LOGO-FLAME

## LOGO-SFESM
designator LOGO?, comment Spark Fun Electronics PCB LogoThis is the standard Spark Fun Electronics PCB logo.  (value not drawn)
GateName_1: G$1; SymbolName_1: LOGO1; DeviceName: SM; DeviceSetName: LOGO-SFE; LibraryName: SparkFun-Retired; Package: SFE-NEW-WEB-SOLDERMASK
footprint SFE-NEW-WEB-SOLDERMASK

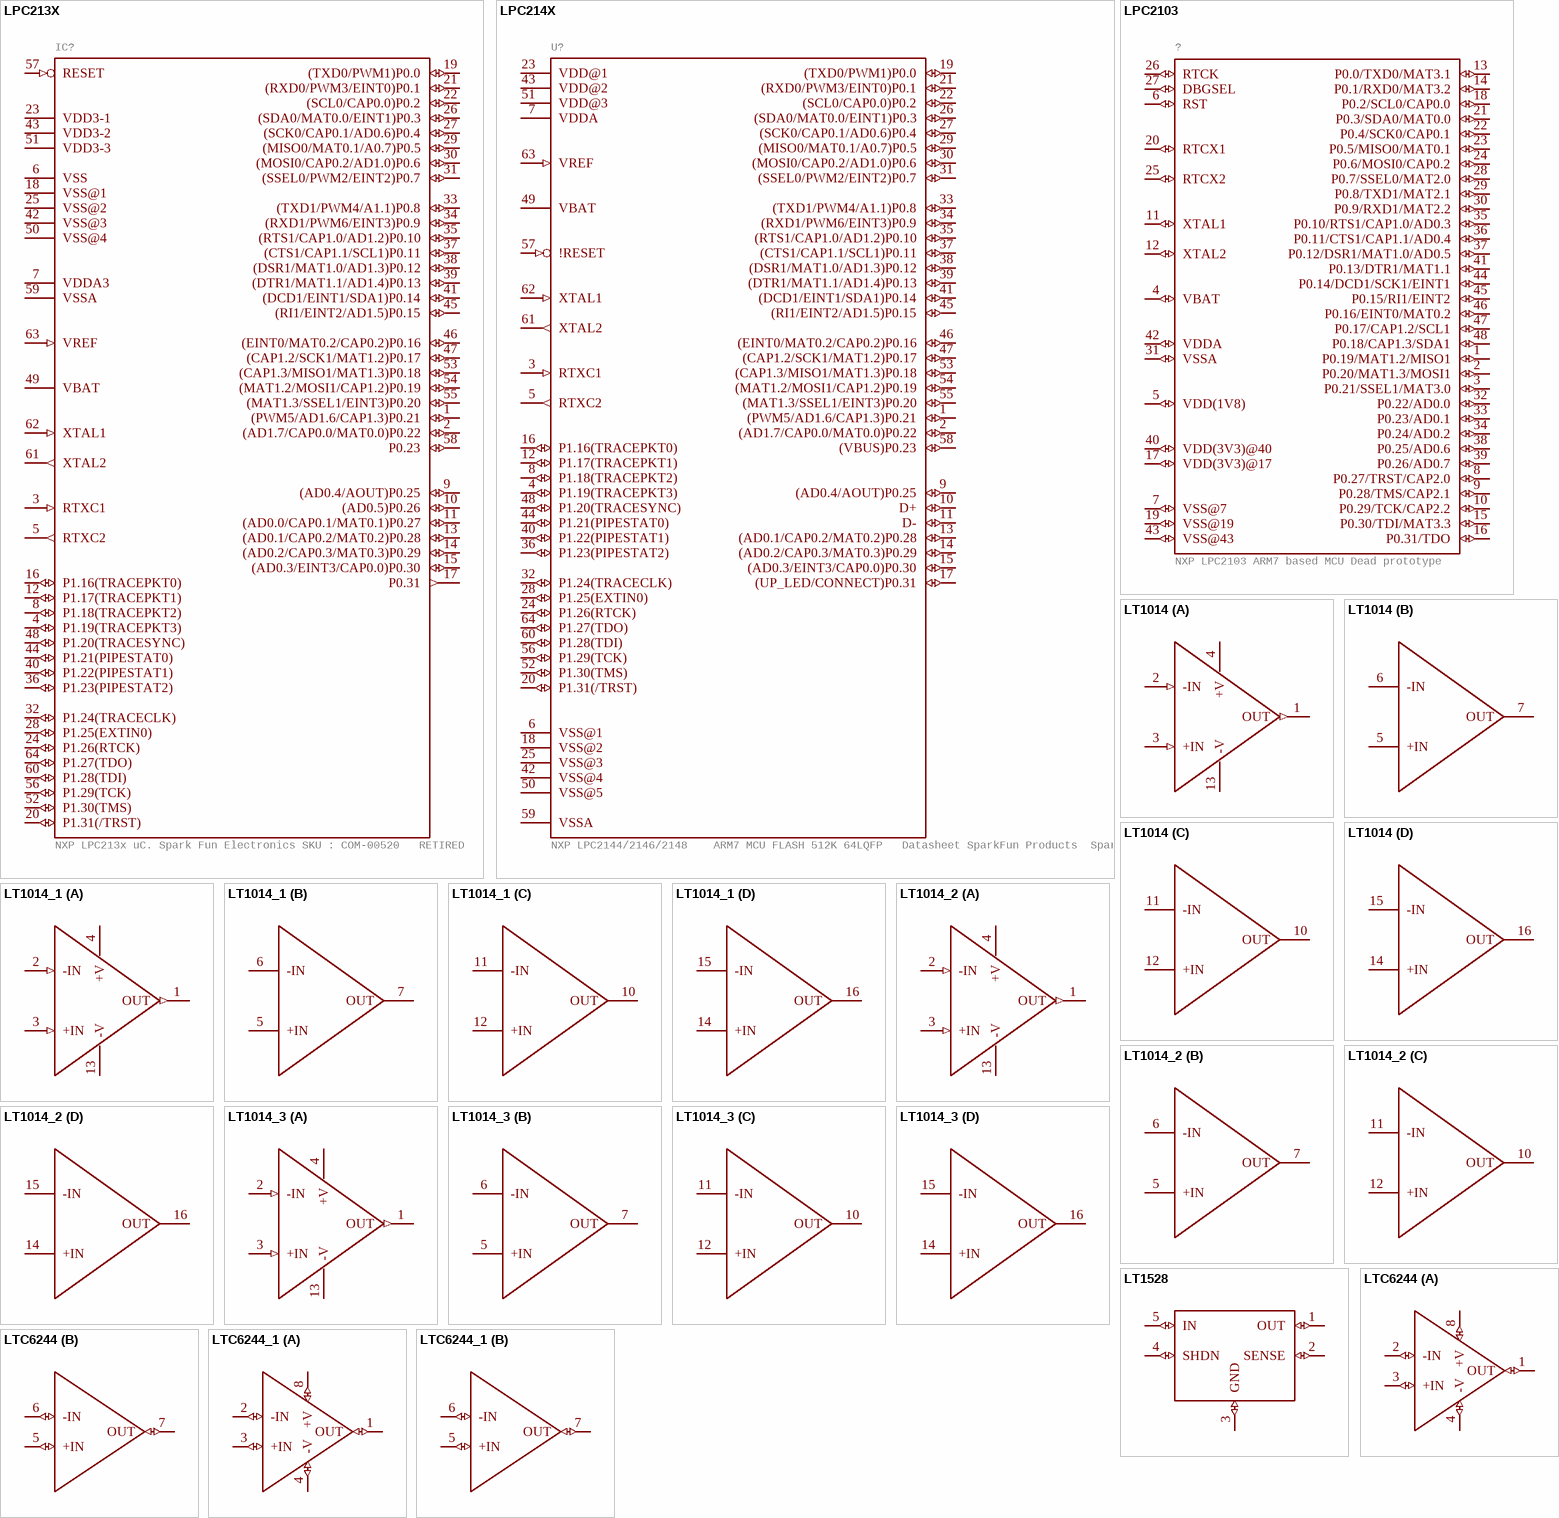
[diagram p20: symbols LPC213X to LTC6244_1]

## LPC213X
designator IC?, comment NXP LPC213x uC. Spark Fun Electronics SKU : COM-00520   RETIRED
GateName_1: G$1; SymbolName_1: LPC213X; LibraryName: SparkFun-Retired; DeviceSetName: LPC213X; Package: SQFP-S-10X10-64_MCU
footprint SQFP-S-10X10-64_MCU
pins: 1 (PWM5/AD1.6/CAP1.3)P0.21 (io), 2 (AD1.7/CAP0.0/MAT0.0)P0.22 (io), 3 RTXC1 (in), 4 P1.19(TRACEPKT3) (io), 5 RTXC2 (out), 6 VSS (power), 7 VDDA3 (power), 8 P1.18(TRACEPKT2) (io), 9 (AD0.4/AOUT)P0.25 (io), 10 (AD0.5)P0.26 (io), 11 (AD0.0/CAP0.1/MAT0.1)P0.27 (io), 12 P1.17(TRACEPKT1) (io), 13 (AD0.1/CAP0.2/MAT0.2)P0.28 (io), 14 (AD0.2/CAP0.3/MAT0.3)P0.29 (io), 15 (AD0.3/EINT3/CAP0.0)P0.30 (io), 16 P1.16(TRACEPKT0) (io), 17 P0.31 (out), 18 VSS@1 (power), 19 (TXD0/PWM1)P0.0 (io), 20 P1.31(/TRST) (io), 21 (RXD0/PWM3/EINT0)P0.1 (io), 22 (SCL0/CAP0.0)P0.2 (io), 23 VDD3-1 (power), 24 P1.26(RTCK) (io), 25 VSS@2 (power), 26 (SDA0/MAT0.0/EINT1)P0.3 (io), 27 (SCK0/CAP0.1/AD0.6)P0.4 (io), 28 P1.25(EXTIN0) (io), 29 (MISO0/MAT0.1/A0.7)P0.5 (io), 30 (MOSI0/CAP0.2/AD1.0)P0.6 (io), 31 (SSEL0/PWM2/EINT2)P0.7 (io), 32 P1.24(TRACECLK) (io), 33 (TXD1/PWM4/A1.1)P0.8 (io), 34 (RXD1/PWM6/EINT3)P0.9 (io), 35 (RTS1/CAP1.0/AD1.2)P0.10 (io), 36 P1.23(PIPESTAT2) (io), 37 (CTS1/CAP1.1/SCL1)P0.11 (io), 38 (DSR1/MAT1.0/AD1.3)P0.12 (io), 39 (DTR1/MAT1.1/AD1.4)P0.13 (io), 40 P1.22(PIPESTAT1) (io), 41 (DCD1/EINT1/SDA1)P0.14 (io), 42 VSS@3 (power), 43 VDD3-2 (power), 44 P1.21(PIPESTAT0) (io), 45 (RI1/EINT2/AD1.5)P0.15 (io), 46 (EINT0/MAT0.2/CAP0.2)P0.16 (io), 47 (CAP1.2/SCK1/MAT1.2)P0.17 (io), 48 P1.20(TRACESYNC) (io), 49 VBAT (power), 50 VSS@4 (power), 51 VDD3-3 (power), 52 P1.30(TMS) (io), 53 (CAP1.3/MISO1/MAT1.3)P0.18 (io), 54 (MAT1.2/MOSI1/CAP1.2)P0.19 (io), 55 (MAT1.3/SSEL1/EINT3)P0.20 (io), 56 P1.29(TCK) (io), 57 RESET (in), 58 P0.23 (io), 59 VSSA (power), 60 P1.28(TDI) (io), 61 XTAL2 (out), 62 XTAL1 (in), 63 VREF (in), 64 P1.27(TDO) (io)

## LPC214X
designator U?, comment NXP LPC2144/2146/2148    ARM7 MCU FLASH 512K 64LQFP   Datasheet SparkFun Products  SparkFun Logomatic v2 - Serial SD Datalogger (FAT32) (WIG-12772)
GateName_1: G$1; SymbolName_1: LPC213X-1; DeviceSetName: LPC214X; PROD_ID: IC-07934; LibraryName: SparkFun-Retired; Package: LQFP-10X10-64_MCU
footprint LQFP-10X10-64_MCU
pins: 1 (PWM5/AD1.6/CAP1.3)P0.21 (io), 2 (AD1.7/CAP0.0/MAT0.0)P0.22 (io), 3 RTXC1 (in), 4 P1.19(TRACEPKT3) (io), 5 RTXC2 (out), 6 VSS@1 (power), 7 VDDA (power), 8 P1.18(TRACEPKT2) (io), 9 (AD0.4/AOUT)P0.25 (io), 10 D+ (io), 11 D- (io), 12 P1.17(TRACEPKT1) (io), 13 (AD0.1/CAP0.2/MAT0.2)P0.28 (io), 14 (AD0.2/CAP0.3/MAT0.3)P0.29 (io), 15 (AD0.3/EINT3/CAP0.0)P0.30 (io), 16 P1.16(TRACEPKT0) (io), 17 (UP_LED/CONNECT)P0.31 (io), 18 VSS@2 (power), 19 (TXD0/PWM1)P0.0 (io), 20 P1.31(/TRST) (io), 21 (RXD0/PWM3/EINT0)P0.1 (io), 22 (SCL0/CAP0.0)P0.2 (io), 23 VDD@1 (power), 24 P1.26(RTCK) (io), 25 VSS@3 (power), 26 (SDA0/MAT0.0/EINT1)P0.3 (io), 27 (SCK0/CAP0.1/AD0.6)P0.4 (io), 28 P1.25(EXTIN0) (io), 29 (MISO0/MAT0.1/A0.7)P0.5 (io), 30 (MOSI0/CAP0.2/AD1.0)P0.6 (io), 31 (SSEL0/PWM2/EINT2)P0.7 (io), 32 P1.24(TRACECLK) (io), 33 (TXD1/PWM4/A1.1)P0.8 (io), 34 (RXD1/PWM6/EINT3)P0.9 (io), 35 (RTS1/CAP1.0/AD1.2)P0.10 (io), 36 P1.23(PIPESTAT2) (io), 37 (CTS1/CAP1.1/SCL1)P0.11 (io), 38 (DSR1/MAT1.0/AD1.3)P0.12 (io), 39 (DTR1/MAT1.1/AD1.4)P0.13 (io), 40 P1.22(PIPESTAT1) (io), 41 (DCD1/EINT1/SDA1)P0.14 (io), 42 VSS@4 (power), 43 VDD@2 (power), 44 P1.21(PIPESTAT0) (io), 45 (RI1/EINT2/AD1.5)P0.15 (io), 46 (EINT0/MAT0.2/CAP0.2)P0.16 (io), 47 (CAP1.2/SCK1/MAT1.2)P0.17 (io), 48 P1.20(TRACESYNC) (io), 49 VBAT (power), 50 VSS@5 (power), 51 VDD@3 (power), 52 P1.30(TMS) (io), 53 (CAP1.3/MISO1/MAT1.3)P0.18 (io), 54 (MAT1.2/MOSI1/CAP1.2)P0.19 (io), 55 (MAT1.3/SSEL1/EINT3)P0.20 (io), 56 P1.29(TCK) (io), 57 !RESET (in), 58 (VBUS)P0.23 (io), 59 VSSA (power), 60 P1.28(TDI) (io), 61 XTAL2 (out), 62 XTAL1 (in), 63 VREF (in), 64 P1.27(TDO) (io)

## LPC2103
designator ?, comment NXP LPC2103 ARM7 based MCU Dead prototype
GateName_1: G$1; PROD_ID: IC-09387; SymbolName_1: LPC2103; LibraryName: SparkFun-Retired; DeviceSetName: LPC2103; Package: LQFP-48_MCU
footprint LQFP-48_MCU
pins: 1 P0.19/MAT1.2/MISO1 (io), 2 P0.20/MAT1.3/MOSI1 (io), 3 P0.21/SSEL1/MAT3.0 (io), 4 VBAT (io), 5 VDD(1V8) (io), 6 RST (io), 7 VSS@7 (io), 8 P0.27/TRST/CAP2.0 (io), 9 P0.28/TMS/CAP2.1 (io), 10 P0.29/TCK/CAP2.2 (io), 11 XTAL1 (io), 12 XTAL2 (io), 13 P0.0/TXD0/MAT3.1 (io), 14 P0.1/RXD0/MAT3.2 (io), 15 P0.30/TDI/MAT3.3 (io), 16 P0.31/TDO (io), 17 VDD(3V3)@17 (io), 18 P0.2/SCL0/CAP0.0 (io), 19 VSS@19 (io), 20 RTCX1 (io), 21 P0.3/SDA0/MAT0.0 (io), 22 P0.4/SCK0/CAP0.1 (io), 23 P0.5/MISO0/MAT0.1 (io), 24 P0.6/MOSI0/CAP0.2 (io), 25 RTCX2 (io), 26 RTCK (io), 27 DBGSEL (io), 28 P0.7/SSEL0/MAT2.0 (io), 29 P0.8/TXD1/MAT2.1 (io), 30 P0.9/RXD1/MAT2.2 (io), 31 VSSA (io), 32 P0.22/AD0.0 (io), 33 P0.23/AD0.1 (io), 34 P0.24/AD0.2 (io), 35 P0.10/RTS1/CAP1.0/AD0.3 (io), 36 P0.11/CTS1/CAP1.1/AD0.4 (io), 37 P0.12/DSR1/MAT1.0/AD0.5 (io), 38 P0.25/AD0.6 (io), 39 P0.26/AD0.7 (io), 40 VDD(3V3)@40 (io), 41 P0.13/DTR1/MAT1.1 (io), 42 VDDA (io), 43 VSS@43 (io), 44 P0.14/DCD1/SCK1/EINT1 (io), 45 P0.15/RI1/EINT2 (io), 46 P0.16/EINT0/MAT0.2 (io), 47 P0.17/CAP1.2/SCL1 (io), 48 P0.18/CAP1.3/SDA1 (io)

## LT1014
designator ?, comment Precision quad op-amp. I/O range includes negative rail.  Dead Prototype: IC-08606 TODO: fix symbol  (value not drawn)
GateName_1: G1; SymbolName_1: LT1014; GateName_2: G2; SymbolName_2: LT1014_2; GateName_3: G3; GateName_4: G4; SymbolName_3: LT1014_2; SymbolName_4: LT1014_2; LibraryName: SparkFun-Retired; DeviceSetName: LT1014; Package: SO16L
footprint SO16L
part A pins: 1 OUT (out), 2 -IN (in), 3 +IN (in), 4 +V (power), 13 -V (power)
part B pins: 5 +IN (power), 6 -IN (power), 7 OUT (power)
part C pins: 10 OUT (power), 11 -IN (power), 12 +IN (power)
part D pins: 14 +IN (power), 15 -IN (power), 16 OUT (power)

## LT1014_1
designator ?, comment Precision quad op-amp. I/O range includes negative rail.  Dead Prototype: IC-08606 TODO: fix symbol  (value not drawn)
GateName_1: G1; SymbolName_1: LT1014; GateName_2: G2; SymbolName_2: LT1014_2; GateName_3: G3; GateName_4: G4; SymbolName_3: LT1014_2; SymbolName_4: LT1014_2; LibraryName: SparkFun-Retired; DeviceSetName: LT1014; Package: SO16L
footprint SO16L
part A pins: 1 OUT (out), 2 -IN (in), 3 +IN (in), 4 +V (power), 13 -V (power)
part B pins: 5 +IN (power), 6 -IN (power), 7 OUT (power)
part C pins: 10 OUT (power), 11 -IN (power), 12 +IN (power)
part D pins: 14 +IN (power), 15 -IN (power), 16 OUT (power)

## LT1014_2
designator ?, comment Precision quad op-amp. I/O range includes negative rail.  Dead Prototype: IC-08606 TODO: fix symbol  (value not drawn)
GateName_1: G1; SymbolName_1: LT1014; GateName_2: G2; SymbolName_2: LT1014_2; GateName_3: G3; GateName_4: G4; SymbolName_3: LT1014_2; SymbolName_4: LT1014_2; LibraryName: SparkFun-Retired; DeviceSetName: LT1014; Package: SO16L
footprint SO16L
part A pins: 1 OUT (out), 2 -IN (in), 3 +IN (in), 4 +V (power), 13 -V (power)
part B pins: 5 +IN (power), 6 -IN (power), 7 OUT (power)
part C pins: 10 OUT (power), 11 -IN (power), 12 +IN (power)
part D pins: 14 +IN (power), 15 -IN (power), 16 OUT (power)

## LT1014_3
designator ?, comment Precision quad op-amp. I/O range includes negative rail.  Dead Prototype: IC-08606 TODO: fix symbol  (value not drawn)
GateName_1: G1; SymbolName_1: LT1014; GateName_2: G2; SymbolName_2: LT1014_2; GateName_3: G3; GateName_4: G4; SymbolName_3: LT1014_2; SymbolName_4: LT1014_2; LibraryName: SparkFun-Retired; DeviceSetName: LT1014; Package: SO16L
footprint SO16L
part A pins: 1 OUT (out), 2 -IN (in), 3 +IN (in), 4 +V (power), 13 -V (power)
part B pins: 5 +IN (power), 6 -IN (power), 7 OUT (power)
part C pins: 10 OUT (power), 11 -IN (power), 12 +IN (power)
part D pins: 14 +IN (power), 15 -IN (power), 16 OUT (power)

## LT1528
designator ?, comment High current voltage regulator commonly used with GM862 cellular module. Spark Fun Electronics SKU : COM-00311. Footprint may need to have the large paste aperature reduced.  (value not drawn)
GateName_1: G$1; SymbolName_1: LT1528; LibraryName: SparkFun-Retired; DeviceSetName: LT1528; Package: Q5-DD
footprint Q5-DD
pins: 1 OUT (io), 2 SENSE (io), 3 GND (io), 4 SHDN (io), 5 IN (io)

## LTC6244
designator ?, comment Low-noise, high-speed rail-to-rail CMOS op-amp  Not in catalog  (value not drawn)
GateName_1: G1; SymbolName_1: LTC6244; GateName_2: G2; SymbolName_2: LTC6244_2; LibraryName: SparkFun-Retired; DeviceSetName: LTC6244; Package: MSOP8
footprint MSOP8
part A pins: 1 OUT (io), 2 -IN (io), 3 +IN (io), 4 -V (io), 8 +V (io)
part B pins: 5 +IN (io), 6 -IN (io), 7 OUT (io)

## LTC6244_1
designator ?, comment Low-noise, high-speed rail-to-rail CMOS op-amp  Not in catalog  (value not drawn)
GateName_1: G1; SymbolName_1: LTC6244; GateName_2: G2; SymbolName_2: LTC6244_2; LibraryName: SparkFun-Retired; DeviceSetName: LTC6244; Package: MSOP8
footprint MSOP8
part A pins: 1 OUT (io), 2 -IN (io), 3 +IN (io), 4 -V (io), 8 +V (io)
part B pins: 5 +IN (io), 6 -IN (io), 7 OUT (io)

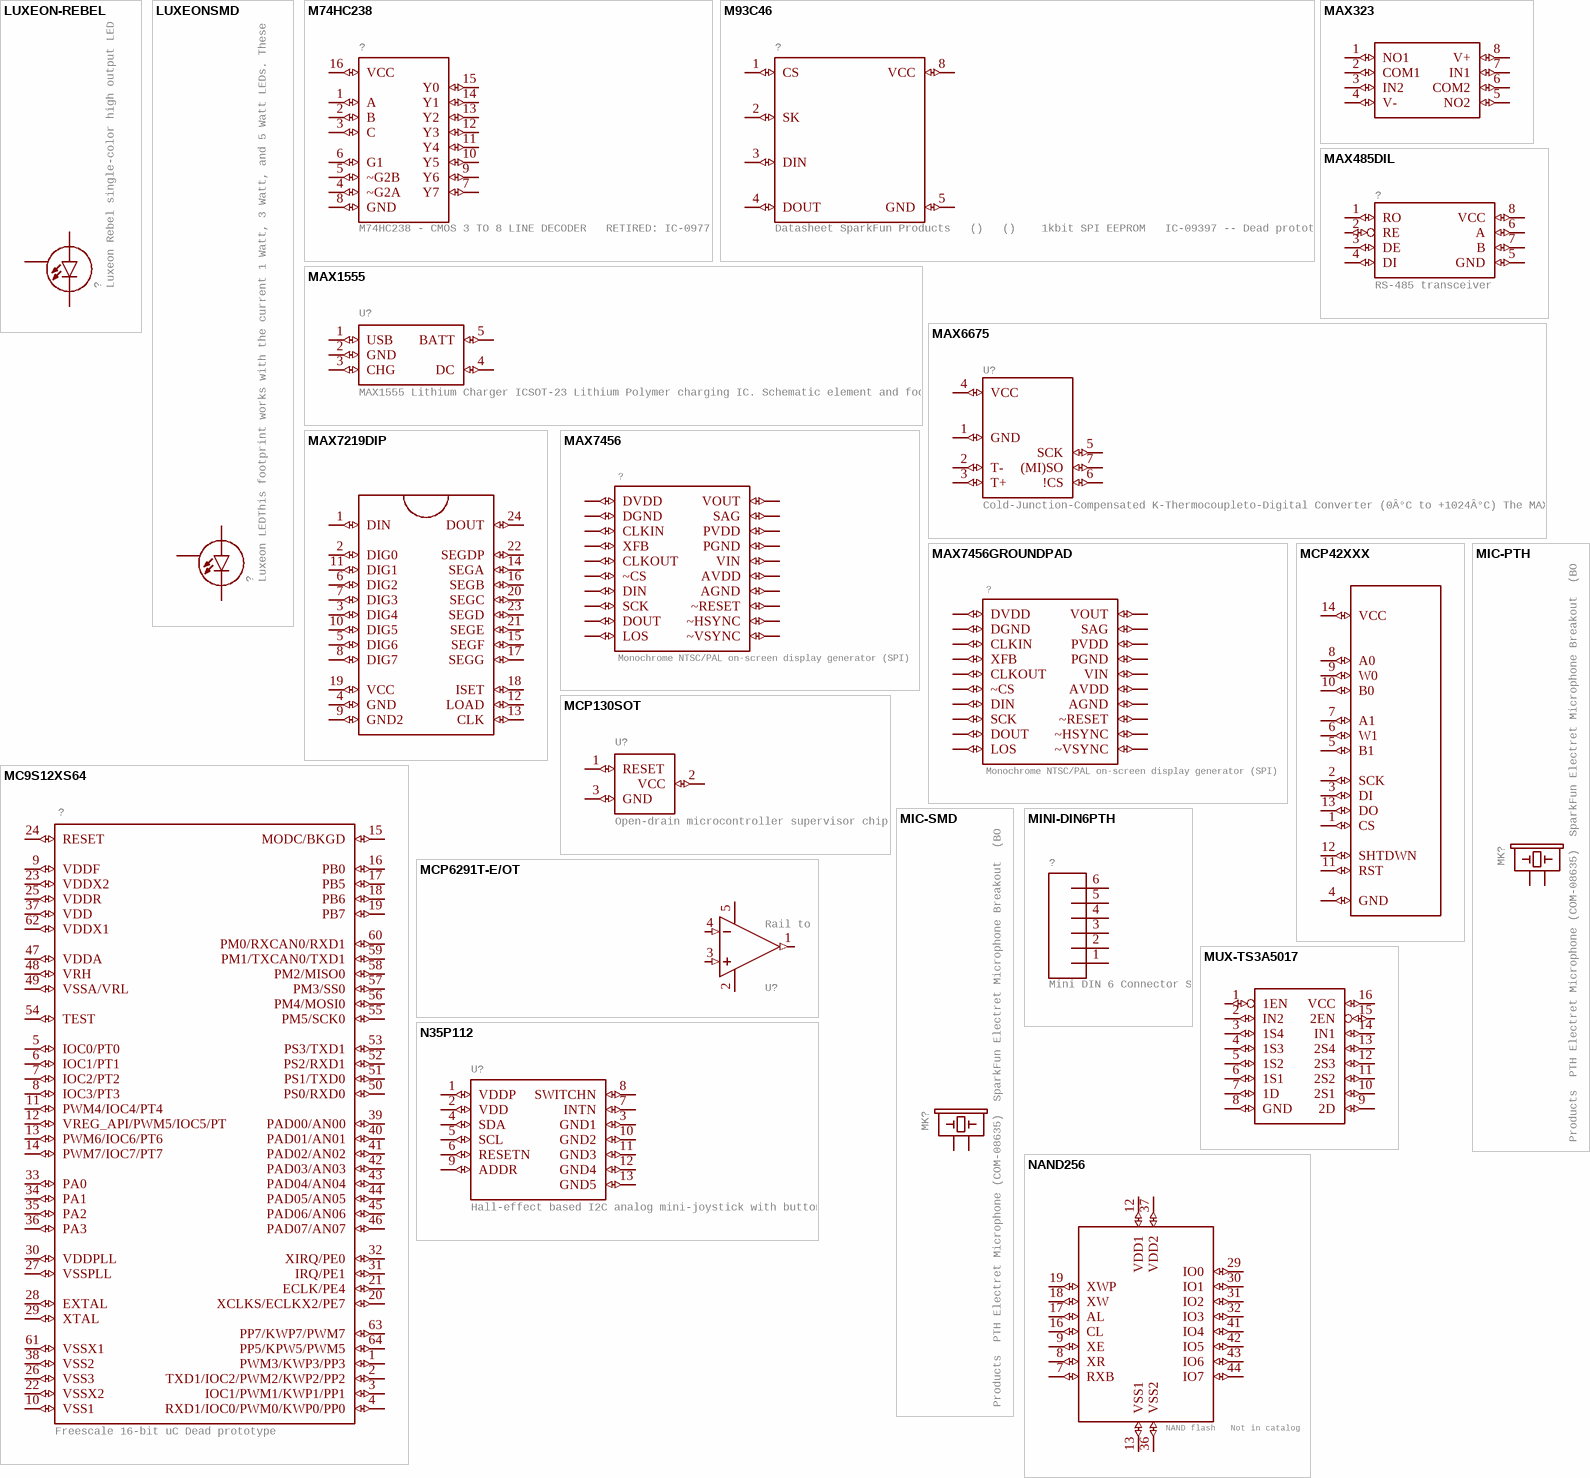
[diagram p21: symbols LUXEON-REBEL to NAND256]

## LUXEON-REBEL
designator ?, comment Luxeon Rebel single-color high output LED
GateName_1: G$1; DeviceSetName: LUXEON-REBEL; SymbolName_1: LUXEON; LibraryName: SparkFun-Retired; Package: LUXEON-REBEL
footprint LUXEON-REBEL
pins: ANODE A, CATHODE C, P$3 S (io)

## LUXEONSMD
designator ?, comment Luxeon LEDThis footprint works with the current 1 Watt, 3 Watt, and 5 Watt LEDs. These blindingly bright LEDs generate a lot of heat so the footprint has a large pad under the LED for thermal transfer. Schematic and footprint are proven. Spark Fun Electronics SKU : COM-00603
GateName_1: G$1; DeviceName: SMD; SymbolName_1: LUXEON; LibraryName: SparkFun-Retired; DeviceSetName: LUXEON; Package: LUXEON
footprint LUXEON
pins: A, C, S (io)

## M74HC238
designator ?, comment M74HC238 - CMOS 3 TO 8 LINE DECODER   RETIRED: IC-09771
GateName_1: G$1; SymbolName_1: M74HC238; LibraryName: SparkFun-Retired; DeviceSetName: M74HC238; Package: DIP16
footprint DIP16
pins: 1 A (io), 2 B (io), 3 C (io), 4 ~G2A (io), 5 ~G2B (io), 6 G1 (io), 7 Y7 (io), 8 GND (io), 9 Y6 (io), 10 Y5 (io), 11 Y4 (io), 12 Y3 (io), 13 Y2 (io), 14 Y1 (io), 15 Y0 (io), 16 VCC (io)

## M93C46
designator ?, comment Datasheet SparkFun Products   ()   ()    1kbit SPI EEPROM   IC-09397 -- Dead prototype
GateName_1: G$1; SymbolName_1: M93C46; LibraryName: SparkFun-Retired; DeviceSetName: M93C46; Package: SO08
footprint SO08
pins: 1 CS (io), 2 SK (io), 3 DIN (io), 4 DOUT (io), 5 GND (io), 8 VCC (io)

## MAX323
designator U?, comment RETIRED Dual low-voltage SPST analog switch  (value not drawn)
GateName_1: G$1; SymbolName_1: MAX323; PROD_ID: IC-08171; LibraryName: SparkFun-Retired; DeviceSetName: MAX323; Package: SO08
footprint SO08
pins: 1 NO1 (io), 2 COM1 (io), 3 IN2 (io), 4 V- (io), 5 NO2 (io), 6 COM2 (io), 7 IN1 (io), 8 V+ (io)

## MAX485DIL
designator ?, comment RS-485 transceiver
GateName_1: G$1; SymbolName_1: MAX485; DeviceName: DIL; LibraryName: SparkFun-Retired; DeviceSetName: MAX485; Package: DIL08
footprint DIL08
pins: 1 RO (io), 2 RE (io), 3 DE (io), 4 DI (io), 5 GND (io), 6 A (io), 7 B (io), 8 VCC (io)

## MAX1555
designator U?, comment MAX1555 Lithium Charger ICSOT-23 Lithium Polymer charging IC. Schematic element and footprint proven. Spark Fun Electronics SKU : COM-00674
GateName_1: G$1; SymbolName_1: MAX1555; LibraryName: SparkFun-Retired; DeviceSetName: MAX1555; Package: SOT23-5
footprint SOT23-5
pins: 1 USB (io), 2 GND (io), 3 CHG (io), 4 DC (io), 5 BATT (io)

## MAX6675
designator U?, comment Cold-Junction-Compensated K-Thermocoupleto-Digital Converter (0Â°C to +1024Â°C) The MAX6675 performs cold-junction compensation and digitizes the signal from a type-K thermocouple. The data is output in a 12-bit resolution, SPIâ„¢-compatible, read-only format. This converter resolves temperatures to 0.25Â°C, allows readings as high as +1024Â°C, and exhibits thermocouple accuracy of 8LSBs for temperatures ranging from 0Â°C to +700Â°C.  Dead Prototype: IC-12512
GateName_1: G$1; SymbolName_1: MAX6675; LibraryName: SparkFun-Retired; DeviceSetName: MAX6675; Package: SOIC8; PROD_ID: IC-12512
footprint SOIC8
pins: 1 GND (io), 2 T- (io), 3 T+ (io), 4 VCC (io), 5 SCK (io), 6 !CS (io), 7 (MI)SO (io)

## MAX7219DIP
designator ?, comment 8-digit, 8-segment LED display driver, serial input  (value not drawn)
GateName_1: G$1; SymbolName_1: MAX7219; DeviceName: DIP; LibraryName: SparkFun-Retired; DeviceSetName: MAX7219; Package: DIL24
footprint DIL24
pins: 1 DIN (io), 2 DIG0 (io), 3 DIG4 (io), 4 GND (io), 5 DIG6 (io), 6 DIG2 (io), 7 DIG3 (io), 8 DIG7 (io), 9 GND2 (io), 10 DIG5 (io), 11 DIG1 (io), 12 LOAD (io), 13 CLK (io), 14 SEGA (io), 15 SEGF (io), 16 SEGB (io), 17 SEGG (io), 18 ISET (io), 19 VCC (io), 20 SEGC (io), 21 SEGE (io), 22 SEGDP (io), 23 SEGD (io), 24 DOUT (io)

## MAX7456
designator ?, comment Monochrome NTSC/PAL on-screen display generator (SPI)
GateName_1: G$1; SymbolName_1: MAX7456; LibraryName: SparkFun-Retired; DeviceSetName: MAX7456; Package: TSSOP28
footprint TSSOP28
pins: 3 DVDD (io), 4 DGND (io), 5 CLKIN (io), 6 XFB (io), 7 CLKOUT (io), 8 ~CS (io), 9 DIN (io), 10 SCK (io), 11 DOUT (io), 12 LOS (io), 17 ~VSYNC (io), 18 ~HSYNC (io), 19 ~RESET (io), 20 AGND (io), 21 AVDD (io), 22 VIN (io), 23 PGND (io), 24 PVDD (io), 25 SAG (io), 26 VOUT (io)

## MAX7456GROUNDPAD
designator ?, comment Monochrome NTSC/PAL on-screen display generator (SPI)
GateName_1: G$1; SymbolName_1: MAX7456; DeviceName: GROUNDPAD; LibraryName: SparkFun-Retired; DeviceSetName: MAX7456; Package: TSSOP28-GROUNDPAD
footprint TSSOP28-GROUNDPAD
pins: 3 DVDD (io), 4 DGND (io), 5 CLKIN (io), 6 XFB (io), 7 CLKOUT (io), 8 ~CS (io), 9 DIN (io), 10 SCK (io), 11 DOUT (io), 12 LOS (io), 17 ~VSYNC (io), 18 ~HSYNC (io), 19 ~RESET (io), 20 AGND (io), 21 AVDD (io), 22 VIN (io), 23 PGND (io), 24 PVDD (io), 25 SAG (io), 26 VOUT (io)

## MC9S12XS64
designator ?, comment Freescale 16-bit uC Dead prototype
GateName_1: G$1; SymbolName_1: MC9S12XS64; PROD_ID: IC-09432; LibraryName: SparkFun-Retired; DeviceSetName: MC9S12XS64; Package: SQFP-S-10X10-64_MCU
footprint SQFP-S-10X10-64_MCU
pins: 1 PWM3/KWP3/PP3 (io), 2 TXD1/IOC2/PWM2/KWP2/PP2 (io), 3 IOC1/PWM1/KWP1/PP1 (io), 4 RXD1/IOC0/PWM0/KWP0/PP0 (io), 5 IOC0/PT0 (io), 6 IOC1/PT1 (io), 7 IOC2/PT2 (io), 8 IOC3/PT3 (io), 9 VDDF (io), 10 VSS1 (io), 11 PWM4/IOC4/PT4 (io), 12 VREG_API/PWM5/IOC5/PT (io), 13 PWM6/IOC6/PT6 (io), 14 PWM7/IOC7/PT7 (io), 15 MODC/BKGD (io), 16 PB0 (io), 17 PB5 (io), 18 PB6 (io), 19 PB7 (io), 20 XCLKS/ECLKX2/PE7 (io), 21 ECLK/PE4 (io), 22 VSSX2 (io), 23 VDDX2 (io), 24 RESET (io), 25 VDDR (io), 26 VSS3 (io), 27 VSSPLL (io), 28 EXTAL (io), 29 XTAL (io), 30 VDDPLL (io), 31 IRQ/PE1 (io), 32 XIRQ/PE0 (io), 33 PA0 (io), 34 PA1 (io), 35 PA2 (io), 36 PA3 (io), 37 VDD (io), 38 VSS2 (io), 39 PAD00/AN00 (io), 40 PAD01/AN01 (io), 41 PAD02/AN02 (io), 42 PAD03/AN03 (io), 43 PAD04/AN04 (io), 44 PAD05/AN05 (io), 45 PAD06/AN06 (io), 46 PAD07/AN07 (io), 47 VDDA (io), 48 VRH (io), 49 VSSA/VRL (io), 50 PS0/RXD0 (io), 51 PS1/TXD0 (io), 52 PS2/RXD1 (io), 53 PS3/TXD1 (io), 54 TEST (io), 55 PM5/SCK0 (io), 56 PM4/MOSI0 (io), 57 PM3/SS0 (io), 58 PM2/MISO0 (io), 59 PM1/TXCAN0/TXD1 (io), 60 PM0/RXCAN0/RXD1 (io), 61 VSSX1 (io), 62 VDDX1 (io), 63 PP7/KWP7/PWM7 (io), 64 PP5/KPW5/PWM5 (io)

## MCP42XXX
designator U?, comment SPI controlled dual digital potentiometer by Microchip  Not in catalog?  (value not drawn)
GateName_1: G$1; SymbolName_1: MCP42XXX; LibraryName: SparkFun-Retired; DeviceSetName: MCP42XXX; Package: SO014
footprint SO014
pins: 1 CS (io), 2 SCK (io), 3 DI (io), 4 GND (io), 5 B1 (io), 6 W1 (io), 7 A1 (io), 8 A0 (io), 9 W0 (io), 10 B0 (io), 11 RST (io), 12 SHTDWN (io), 13 DO (io), 14 VCC (io)

## MCP130SOT
designator U?, comment Open-drain microcontroller supervisor chip
GateName_1: G$1; SymbolName_1: MCP130; DeviceName: SOT; LibraryName: SparkFun-Retired; DeviceSetName: MCP130; Package: SOT23-3
footprint SOT23-3
pins: 1 RESET (io), 2 VCC (io), 3 GND (io)

## MCP6291T-E/OT
designator U?, comment Rail to rail OpAmp with 10MHz GBP  Prototype: IC-11991
GateName_1: G$1; SymbolName_1: OP-AMP+-; DeviceName: T-E/OT; DeviceSetName: MCP6291; LibraryName: SparkFun-Retired; Package: SOT23-5; PROD_ID: IC-11991
footprint SOT23-5
pins: 1 OUT (out), 2 V- (power), 3 +IN (in), 4 -IN (in), 5 V+ (power)

## MIC-PTH
designator MK?, comment Microphone    Omni-directional electret microphones - one through-hole, the other SMD.   Datasheet (through-hole mic)   Datasheet (SMD mic) SparkFun Products  PTH Electret Microphone (COM-08635)  SparkFun Electret Microphone Breakout  (BOB-09964)  Digital Sandbox (DEV-12651)  SparkFun Sound Detector (SEN-12642)     SMD Microphone SparkFun Voice Recorder Breakout - ISD1932 (BOB-10653)
GateName_1: >NAME; DeviceName: -PTH; PROD_ID: COMP-08856; SymbolName_1: MIC; LibraryName: SparkFun-Retired; DeviceSetName: MIC; Package: MICROPHONE-PTH-9.7MM; SF_ID: COM-08635
footprint MICROPHONE-PTH-9.7MM
pins: 1, 2

## MIC-SMD
designator MK?, comment Microphone    Omni-directional electret microphones - one through-hole, the other SMD.   Datasheet (through-hole mic)   Datasheet (SMD mic) SparkFun Products  PTH Electret Microphone (COM-08635)  SparkFun Electret Microphone Breakout  (BOB-09964)  Digital Sandbox (DEV-12651)  SparkFun Sound Detector (SEN-12642)     SMD Microphone SparkFun Voice Recorder Breakout - ISD1932 (BOB-10653)
GateName_1: >NAME; DeviceName: -SMD; PROD_ID: COMP-10458; SymbolName_1: MIC; LibraryName: SparkFun-Retired; DeviceSetName: MIC; Package: MICROPHONE-SMD-6MM
footprint MICROPHONE-SMD-6MM
pins: 1, 2

## MINI-DIN6PTH
designator ?, comment Mini DIN 6 Connector SparkFun used to sell this connector and has used it on a couple designs, however the connector and the designs are now retired.   Mini DIN 6 Connector [RETIRED]  SparkFun Key Counter - PS2 [RETIRED]  Commonly found on the back of a computer for PS2 keyboard and mice. Schematic and footprint are proven.
GateName_1: G$1; SymbolName_1: CONN_06; DeviceName: PTH; DeviceSetName: MINI-DIN6; LibraryName: SparkFun-Retired; Package: MINI-DIN6
footprint MINI-DIN6
pins: 1, 2, 3, 4, 5, 6

## MUX-TS3A5017
designator ?, comment Dual-channel 4:1 analog mux  Retired: IC-08862  (value not drawn)
GateName_1: G$1; SymbolName_1: TS3A5017; DeviceSetName: MUX-TS3A5017; LibraryName: SparkFun-Retired; Package: SO16
footprint SO16
pins: 1 1EN (io), 2 IN2 (io), 3 1S4 (io), 4 1S3 (io), 5 1S2 (io), 6 1S1 (io), 7 1D (io), 8 GND (io), 9 2D (io), 10 2S1 (io), 11 2S2 (io), 12 2S3 (io), 13 2S4 (io), 14 IN1 (io), 15 2EN (io), 16 VCC (io)

## N35P112
designator U?, comment Hall-effect based I2C analog mini-joystick with button
GateName_1: G$1; SymbolName_1: N35P112; PROD_ID: SWCH-10635; LibraryName: SparkFun-Retired; DeviceSetName: N35P112; Package: N35P112
footprint N35P112
pins: 1 VDDP (io), 2 VDD (io), 3 GND1 (io), 4 SDA (io), 5 SCL (io), 6 RESETN (io), 7 INTN (io), 8 SWITCHN (io), 9 ADDR (io), 10 GND2 (io), 11 GND3 (io), 12 GND4 (io), 13 GND5 (io)

## NAND256
designator ?, comment NAND flash   Not in catalog
GateName_1: G$1; SymbolName_1: NAND256; LibraryName: SparkFun-Retired; DeviceSetName: NAND256; Package: TSOP48
footprint TSOP48
pins: 7 RXB (io), 8 XR (io), 9 XE (io), 12 VDD1 (io), 13 VSS1 (io), 16 CL (io), 17 AL (io), 18 XW (io), 19 XWP (io), 29 IO0 (io), 30 IO1 (io), 31 IO2 (io), 32 IO3 (io), 36 VSS2 (io), 37 VDD2 (io), 41 IO4 (io), 42 IO5 (io), 43 IO6 (io), 44 IO7 (io)

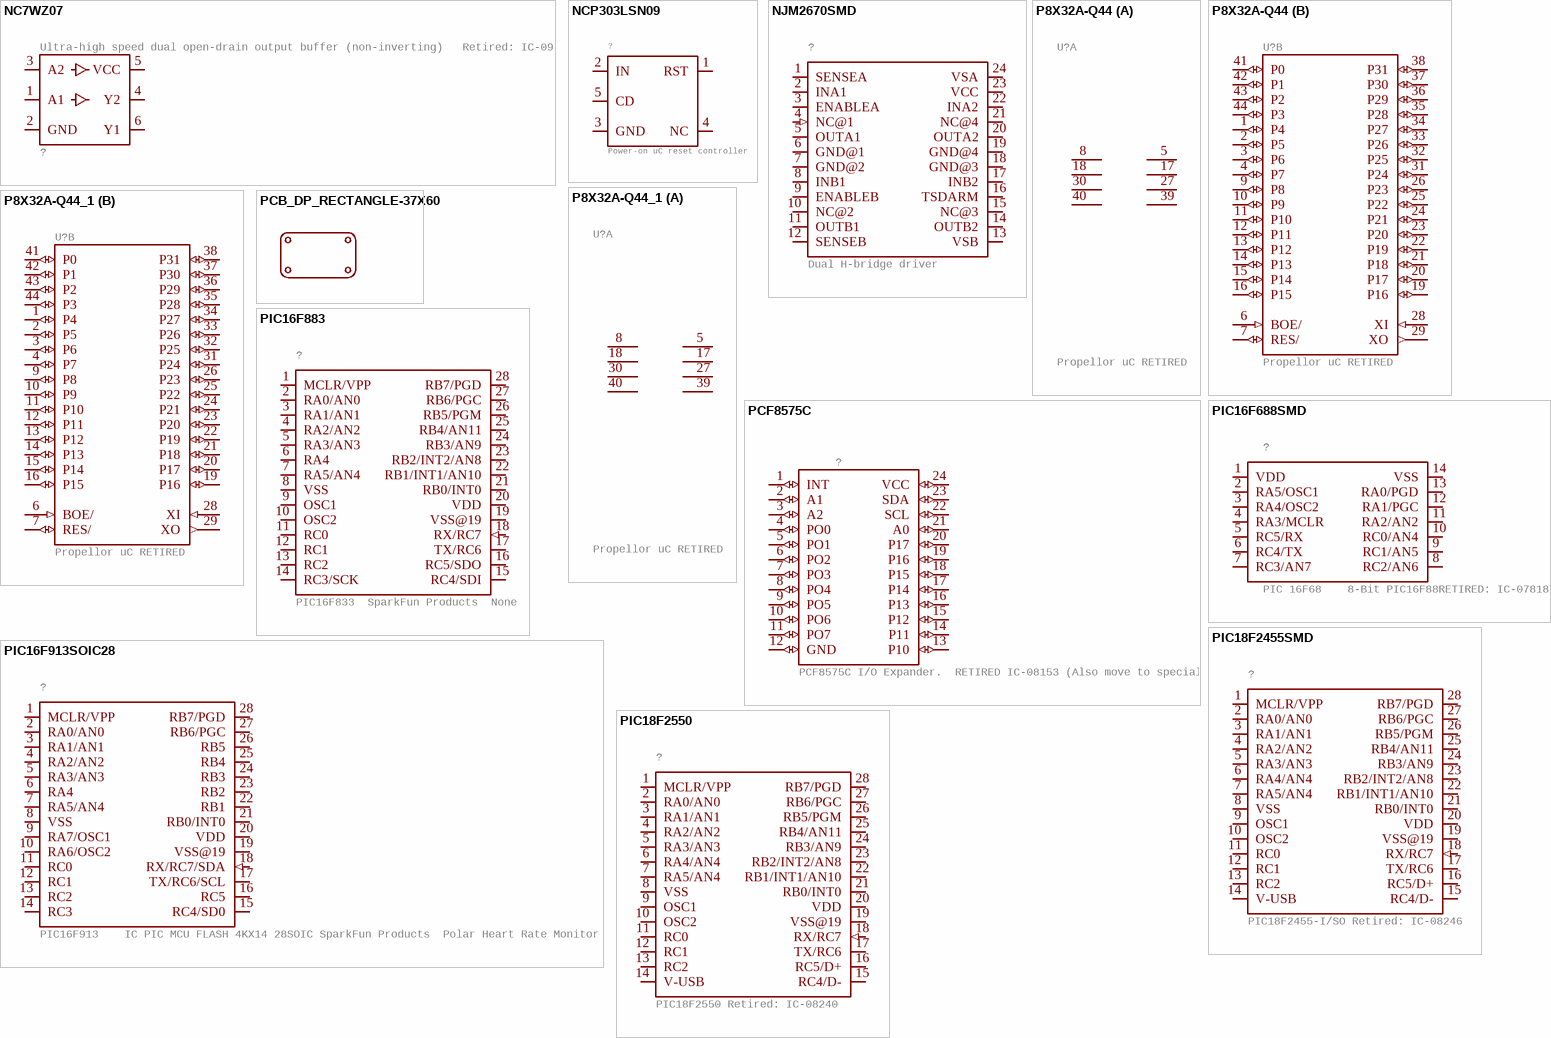
[diagram p22: symbols NC7WZ07 to PIC18F2550]

## NC7WZ07
designator ?, comment Ultra-high speed dual open-drain output buffer (non-inverting)   Retired: IC-09351
GateName_1: G$1; SymbolName_1: BUFFER-DUAL; DeviceSetName: NC7WZ07; LibraryName: SparkFun-Retired; Package: SC70-6
footprint SC70-6
pins: 1 A1 (io), 2 GND (io), 3 A2 (io), 4 Y2 (io), 5 VCC (io), 6 Y1 (io)

## NCP303LSN09
designator ?, comment Power-on uC reset controller
GateName_1: G$1; SymbolName_1: NCP303LSN09; LibraryName: SparkFun-Retired; DeviceSetName: NCP303LSN09; Package: SOT23-5
footprint SOT23-5
pins: 1 RST (io), 2 IN (io), 3 GND (io), 4 NC (io), 5 CD (io)

## NJM2670SMD
designator ?, comment Dual H-bridge driver
GateName_1: G$1; SymbolName_1: NJM2670; DeviceName: SMD; LibraryName: SparkFun-Retired; DeviceSetName: NJM2670; Package: SO-24W
footprint SO-24W
pins: 1 SENSEA (io), 2 INA1 (io), 3 ENABLEA (io), 4 NC@1 (in), 5 OUTA1 (power), 6 GND@1 (power), 7 GND@2 (io), 8 INB1 (io), 9 ENABLEB (io), 10 NC@2 (io), 11 OUTB1 (io), 12 SENSEB (io), 13 VSB (io), 14 OUTB2 (io), 15 NC@3 (io), 16 TSDARM (io), 17 INB2 (io), 18 GND@3 (io), 19 GND@4 (power), 20 OUTA2 (power), 21 NC@4 (io), 22 INA2 (io), 23 VCC (io), 24 VSA (io)

## P8X32A-Q44
designator U?, comment Propellor uC RETIRED
GateName_1: P; SymbolName_1: 4VDD4VSS; GateName_2: P8X32A-Q44; SymbolName_2: P8X32A; PROD_ID: IC-10929; LibraryName: SparkFun-Retired; DeviceSetName: P8X32A-Q44; Package: P8X32A-Q44_MCU
footprint P8X32A-Q44_MCU
part A pins: 5 VSS@1 (power), 8 VDD@1 (power), 17 VSS@2 (power), 18 VDD@2 (power), 27 VSS@3 (power), 30 VDD@3 (power), 39 VSS@4 (power), 40 VDD@4 (power)
part B pins: 1 P4 (io), 2 P5 (io), 3 P6 (io), 4 P7 (io), 6 BOE/ (in), 7 RES/ (io), 9 P8 (io), 10 P9 (io), 11 P10 (io), 12 P11 (io), 13 P12 (io), 14 P13 (io), 15 P14 (io), 16 P15 (io), 19 P16 (io), 20 P17 (io), 21 P18 (io), 22 P19 (io), 23 P20 (io), 24 P21 (io), 25 P22 (io), 26 P23 (io), 28 XI (in), 29 XO (out), 31 P24 (io), 32 P25 (io), 33 P26 (io), 34 P27 (io), 35 P28 (io), 36 P29 (io), 37 P30 (io), 38 P31 (io), 41 P0 (io), 42 P1 (io), 43 P2 (io), 44 P3 (io)

## P8X32A-Q44_1
designator U?, comment Propellor uC RETIRED
GateName_1: P; SymbolName_1: 4VDD4VSS; GateName_2: P8X32A-Q44; SymbolName_2: P8X32A; PROD_ID: IC-10929; LibraryName: SparkFun-Retired; DeviceSetName: P8X32A-Q44; Package: P8X32A-Q44_MCU
footprint P8X32A-Q44_MCU
part A pins: 5 VSS@1 (power), 8 VDD@1 (power), 17 VSS@2 (power), 18 VDD@2 (power), 27 VSS@3 (power), 30 VDD@3 (power), 39 VSS@4 (power), 40 VDD@4 (power)
part B pins: 1 P4 (io), 2 P5 (io), 3 P6 (io), 4 P7 (io), 6 BOE/ (in), 7 RES/ (io), 9 P8 (io), 10 P9 (io), 11 P10 (io), 12 P11 (io), 13 P12 (io), 14 P13 (io), 15 P14 (io), 16 P15 (io), 19 P16 (io), 20 P17 (io), 21 P18 (io), 22 P19 (io), 23 P20 (io), 24 P21 (io), 25 P22 (io), 26 P23 (io), 28 XI (in), 29 XO (out), 31 P24 (io), 32 P25 (io), 33 P26 (io), 34 P27 (io), 35 P28 (io), 36 P29 (io), 37 P30 (io), 38 P31 (io), 41 P0 (io), 42 P1 (io), 43 P2 (io), 44 P3 (io)

## PCB_DP_RECTANGLE-37X60
designator PCB?, comment Dangerous Prototypes Standard Rectangular PCB sizes  (value not drawn)
GateName_1: G$1; SymbolName_1: PCB_STANDARD; DeviceName: -37X60; DeviceSetName: PCB_DP_RECTANGLE; LibraryName: SparkFun-Retired; Package: DP6037_V1
footprint DP6037_V1

## PCF8575C
designator ?, comment PCF8575C I/O Expander.  RETIRED IC-08153 (Also move to special)
GateName_1: G$1; SymbolName_1: PCF8575C; LibraryName: SparkFun-Retired; DeviceSetName: PCF8575C; Package: SO-24DW
footprint SO-24DW
pins: 1 INT (io), 2 A1 (io), 3 A2 (io), 4 PO0 (io), 5 PO1 (io), 6 PO2 (io), 7 PO3 (io), 8 PO4 (io), 9 PO5 (io), 10 PO6 (io), 11 PO7 (io), 12 GND (io), 13 P10 (io), 14 P11 (io), 15 P12 (io), 16 P13 (io), 17 P14 (io), 18 P15 (io), 19 P16 (io), 20 P17 (io), 21 A0 (io), 22 SCL (io), 23 SDA (io), 24 VCC (io)

## PIC16F688SMD
designator ?, comment PIC 16F68    8-Bit PIC16F88RETIRED: IC-07818
GateName_1: G$1; DeviceName: SMD; SymbolName_1: PIC16F688; LibraryName: SparkFun-Retired; DeviceSetName: PIC16F688; Package: SO14_MCU
footprint SO14_MCU
pins: 1 VDD (power), 2 RA5/OSC1 (io), 3 RA4/OSC2 (io), 4 RA3/MCLR (io), 5 RC5/RX (io), 6 RC4/TX (io), 7 RC3/AN7 (io), 8 RC2/AN6 (io), 9 RC1/AN5 (io), 10 RC0/AN4 (io), 11 RA2/AN2 (io), 12 RA1/PGC (io), 13 RA0/PGD (io), 14 VSS (power)

## PIC16F883
designator ?, comment PIC16F833  SparkFun Products  None
GateName_1: G$1; SymbolName_1: PIC16F883; LibraryName: SparkFun-Retired; DeviceSetName: PIC16F883; Package: SO-28W_MCU
footprint SO-28W_MCU
pins: 1 MCLR/VPP (io), 2 RA0/AN0 (io), 3 RA1/AN1 (io), 4 RA2/AN2 (io), 5 RA3/AN3 (io), 6 RA4 (io), 7 RA5/AN4 (io), 8 VSS (power), 9 OSC1 (io), 10 OSC2 (io), 11 RC0 (io), 12 RC1 (io), 13 RC2 (io), 14 RC3/SCK (io), 15 RC4/SDI (io), 16 RC5/SDO (io), 17 TX/RC6 (io), 18 RX/RC7 (in), 19 VSS@19 (power), 20 VDD (power), 21 RB0/INT0 (io), 22 RB1/INT1/AN10 (io), 23 RB2/INT2/AN8 (io), 24 RB3/AN9 (io), 25 RB4/AN11 (io), 26 RB5/PGM (io), 27 RB6/PGC (io), 28 RB7/PGD (io)

## PIC16F913SOIC28
designator ?, comment PIC16F913    IC PIC MCU FLASH 4KX14 28SOIC SparkFun Products  Polar Heart Rate Monitor Interface (SEN-08661)    Short timer
GateName_1: G$1; DeviceName: SOIC28; SymbolName_1: PIC16F913; LibraryName: SparkFun-Retired; DeviceSetName: PIC16F913; Package: SO-28W_MCU
footprint SO-28W_MCU
pins: 1 MCLR/VPP (io), 2 RA0/AN0 (io), 3 RA1/AN1 (io), 4 RA2/AN2 (io), 5 RA3/AN3 (io), 6 RA4 (io), 7 RA5/AN4 (io), 8 VSS (power), 9 RA7/OSC1 (io), 10 RA6/OSC2 (io), 11 RC0 (io), 12 RC1 (io), 13 RC2 (io), 14 RC3 (io), 15 RC4/SD0 (io), 16 RC5 (io), 17 TX/RC6/SCL (io), 18 RX/RC7/SDA (in), 19 VSS@19 (power), 20 VDD (power), 21 RB0/INT0 (io), 22 RB1 (io), 23 RB2 (io), 24 RB3 (io), 25 RB4 (io), 26 RB5 (io), 27 RB6/PGC (io), 28 RB7/PGD (io)